# Altium integrated library Actel ProASIC PLUS.IntLib: 242 symbols (part 2 of 36)
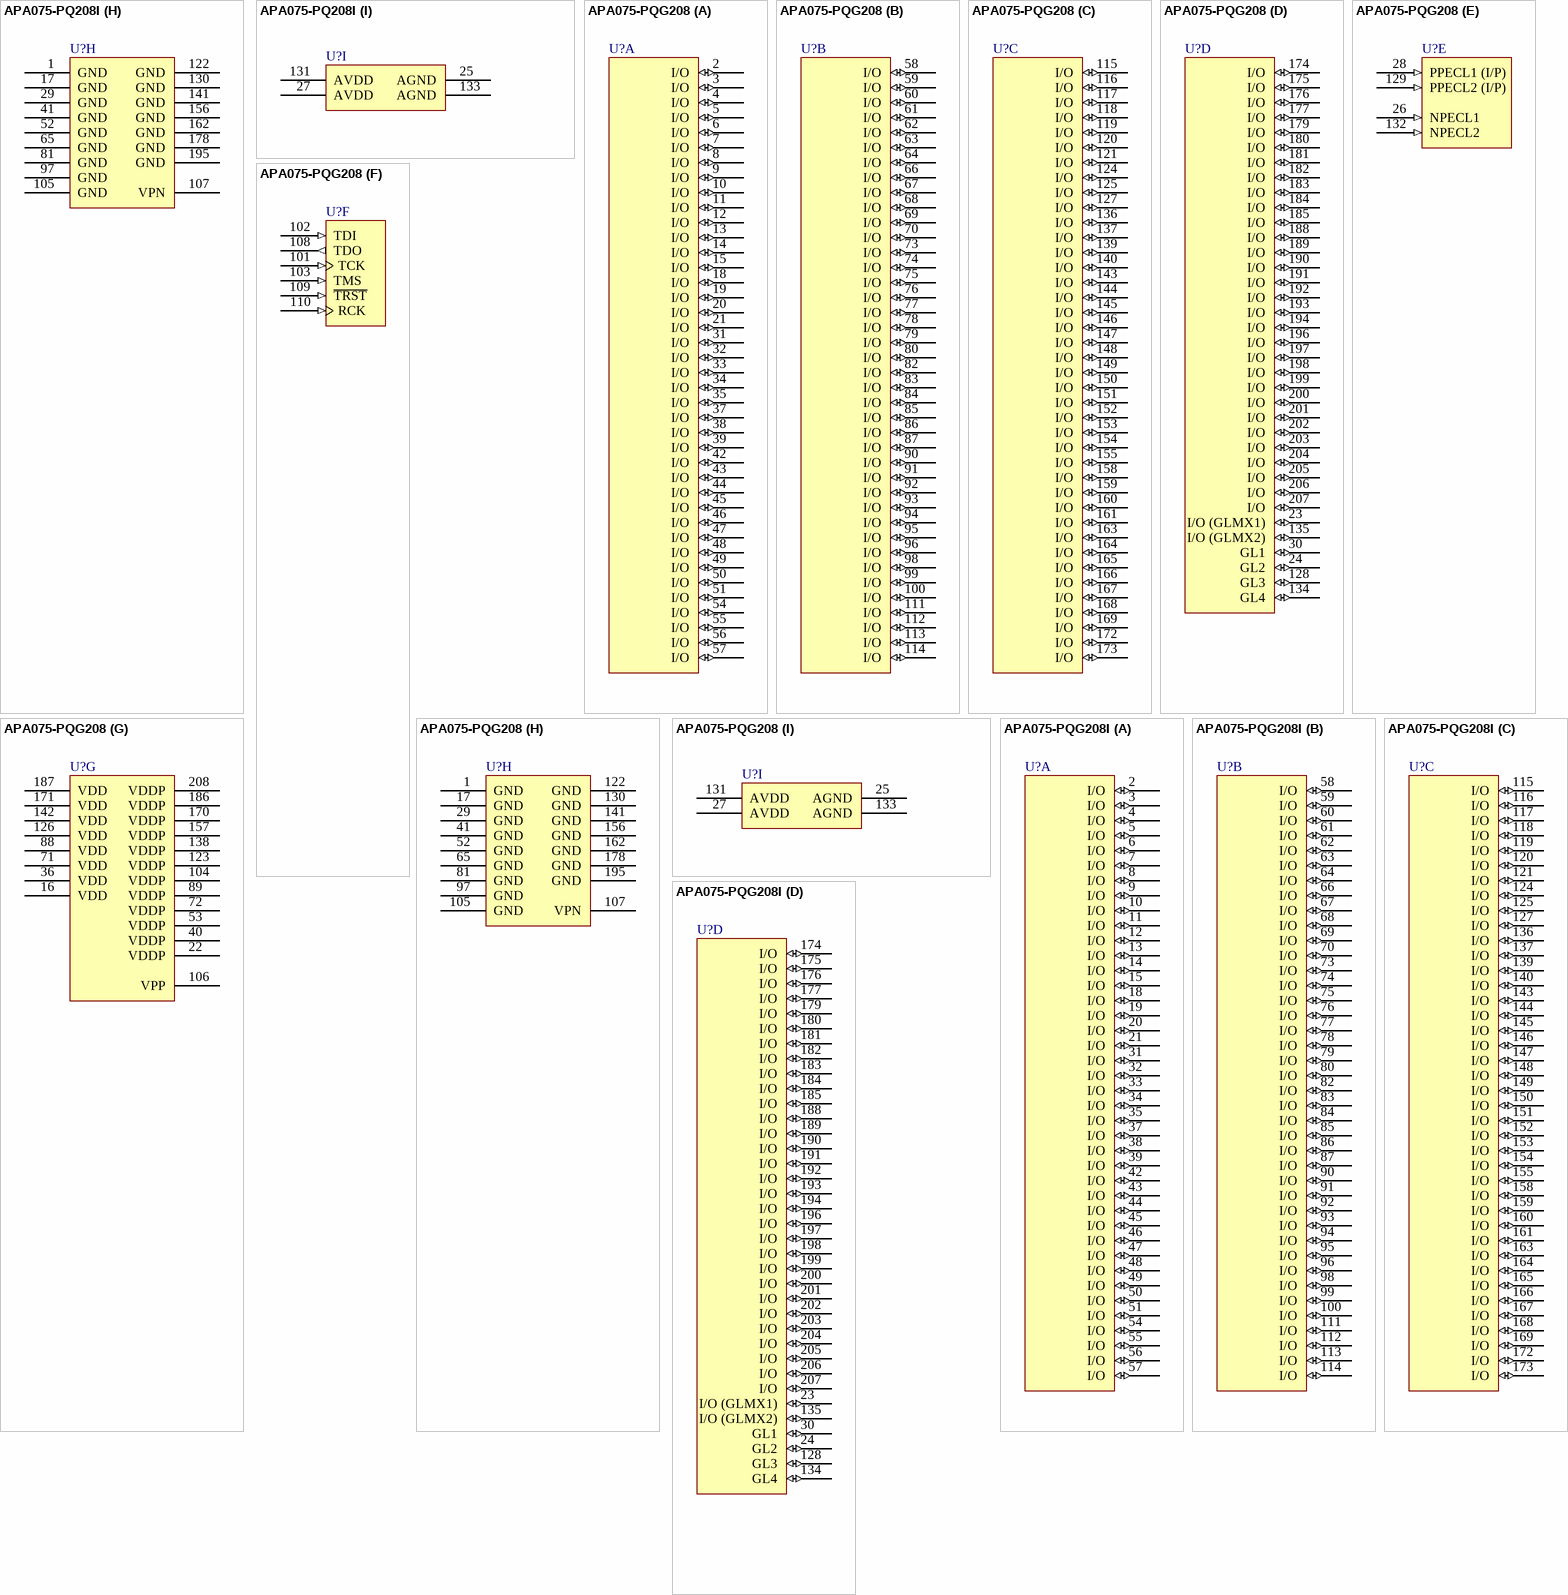
[diagram p198: symbols APA075-PQ208I to APA075-PQG208I]

## APA075-PQG208
designator U?
ProASICPlus APA075 Flash FPGA, 156 User IOs, 208-Pin PQFP, Speed Grade Standard, Commercial Grade, Pb-Free; DatasheetVersion: v5.9, Jan-2010; PackageVersion: ver11.2, Nov-2009; PackageReference: PQ208; PackageDescription: 208-Pin Plastic Quad Flat Pack (PQ208); Code_JEDEC: MS-029-FA-1; ComponentLink1Description: Manufacturer URL; ComponentLink1URL: http://www.actel.com/; ComponentLink2Description: ProASIC PLUS Datasheet; ComponentLink2URL: http://www.actel.com/documents/ProASICPLUS_DS.pdf; ComponentLink3Description: Package Mechanical Drawings; ComponentLink3URL: http://www.actel.com/documents/PckgMechDrwngs.pdf; ComponentLink4Description: ProASIC PLUS Documents; ComponentLink4URL: http://www.actel.com/products/proasicplus/docs.aspx
footprint PQ208_N (Shrink QFP, 208-Leads, Body 28x28mm, Pitch 0.5mm, IPC Medium Density)
footprint PQ208_L (Shrink QFP, 208-Leads, Body 28x28mm, Pitch 0.5mm, IPC High Density)
footprint PQ208_M (Shrink QFP, 208-Leads, Body 28x28mm, Pitch 0.5mm, IPC Low Density)
part A pins: 2 I/O (io), 3 I/O (io), 4 I/O (io), 5 I/O (io), 6 I/O (io), 7 I/O (io), 8 I/O (io), 9 I/O (io), 10 I/O (io), 11 I/O (io), 12 I/O (io), 13 I/O (io), 14 I/O (io), 15 I/O (io), 18 I/O (io), 19 I/O (io), 20 I/O (io), 21 I/O (io), 31 I/O (io), 32 I/O (io), 33 I/O (io), 34 I/O (io), 35 I/O (io), 37 I/O (io), 38 I/O (io), 39 I/O (io), 42 I/O (io), 43 I/O (io), 44 I/O (io), 45 I/O (io), 46 I/O (io), 47 I/O (io), 48 I/O (io), 49 I/O (io), 50 I/O (io), 51 I/O (io), 54 I/O (io), 55 I/O (io), 56 I/O (io), 57 I/O (io)
part B pins: 58 I/O (io), 59 I/O (io), 60 I/O (io), 61 I/O (io), 62 I/O (io), 63 I/O (io), 64 I/O (io), 66 I/O (io), 67 I/O (io), 68 I/O (io), 69 I/O (io), 70 I/O (io), 73 I/O (io), 74 I/O (io), 75 I/O (io), 76 I/O (io), 77 I/O (io), 78 I/O (io), 79 I/O (io), 80 I/O (io), 82 I/O (io), 83 I/O (io), 84 I/O (io), 85 I/O (io), 86 I/O (io), 87 I/O (io), 90 I/O (io), 91 I/O (io), 92 I/O (io), 93 I/O (io), 94 I/O (io), 95 I/O (io), 96 I/O (io), 98 I/O (io), 99 I/O (io), 100 I/O (io), 111 I/O (io), 112 I/O (io), 113 I/O (io), 114 I/O (io)
part C pins: 115 I/O (io), 116 I/O (io), 117 I/O (io), 118 I/O (io), 119 I/O (io), 120 I/O (io), 121 I/O (io), 124 I/O (io), 125 I/O (io), 127 I/O (io), 136 I/O (io), 137 I/O (io), 139 I/O (io), 140 I/O (io), 143 I/O (io), 144 I/O (io), 145 I/O (io), 146 I/O (io), 147 I/O (io), 148 I/O (io), 149 I/O (io), 150 I/O (io), 151 I/O (io), 152 I/O (io), 153 I/O (io), 154 I/O (io), 155 I/O (io), 158 I/O (io), 159 I/O (io), 160 I/O (io), 161 I/O (io), 163 I/O (io), 164 I/O (io), 165 I/O (io), 166 I/O (io), 167 I/O (io), 168 I/O (io), 169 I/O (io), 172 I/O (io), 173 I/O (io)
part D pins: 23 I/O (GLMX1) (io), 24 GL2 (io), 30 GL1 (io), 128 GL3 (io), 134 GL4 (io), 135 I/O (GLMX2) (io), 174 I/O (io), 175 I/O (io), 176 I/O (io), 177 I/O (io), 179 I/O (io), 180 I/O (io), 181 I/O (io), 182 I/O (io), 183 I/O (io), 184 I/O (io), 185 I/O (io), 188 I/O (io), 189 I/O (io), 190 I/O (io), 191 I/O (io), 192 I/O (io), 193 I/O (io), 194 I/O (io), 196 I/O (io), 197 I/O (io), 198 I/O (io), 199 I/O (io), 200 I/O (io), 201 I/O (io), 202 I/O (io), 203 I/O (io), 204 I/O (io), 205 I/O (io), 206 I/O (io), 207 I/O (io)
part E pins: 26 NPECL1 (in), 28 PPECL1 (I/P) (in), 129 PPECL2 (I/P) (in), 132 NPECL2 (in)
part F pins: 101 TCK (in), 102 TDI (in), 103 TMS (in), 108 TDO (out), 109 ~{TRST} (in), 110 RCK (in)
part G pins: 16 VDD (power), 22 VDDP (power), 36 VDD (power), 40 VDDP (power), 53 VDDP (power), 71 VDD (power), 72 VDDP (power), 88 VDD (power), 89 VDDP (power), 104 VDDP (power), 106 VPP (power), 123 VDDP (power), 126 VDD (power), 138 VDDP (power), 142 VDD (power), 157 VDDP (power), 170 VDDP (power), 171 VDD (power), 186 VDDP (power), 187 VDD (power), 208 VDDP (power)
part H pins: 1 GND (power), 17 GND (power), 29 GND (power), 41 GND (power), 52 GND (power), 65 GND (power), 81 GND (power), 97 GND (power), 105 GND (power), 107 VPN (power), 122 GND (power), 130 GND (power), 141 GND (power), 156 GND (power), 162 GND (power), 178 GND (power), 195 GND (power)
part I pins: 25 AGND (power), 27 AVDD (power), 131 AVDD (power), 133 AGND (power)

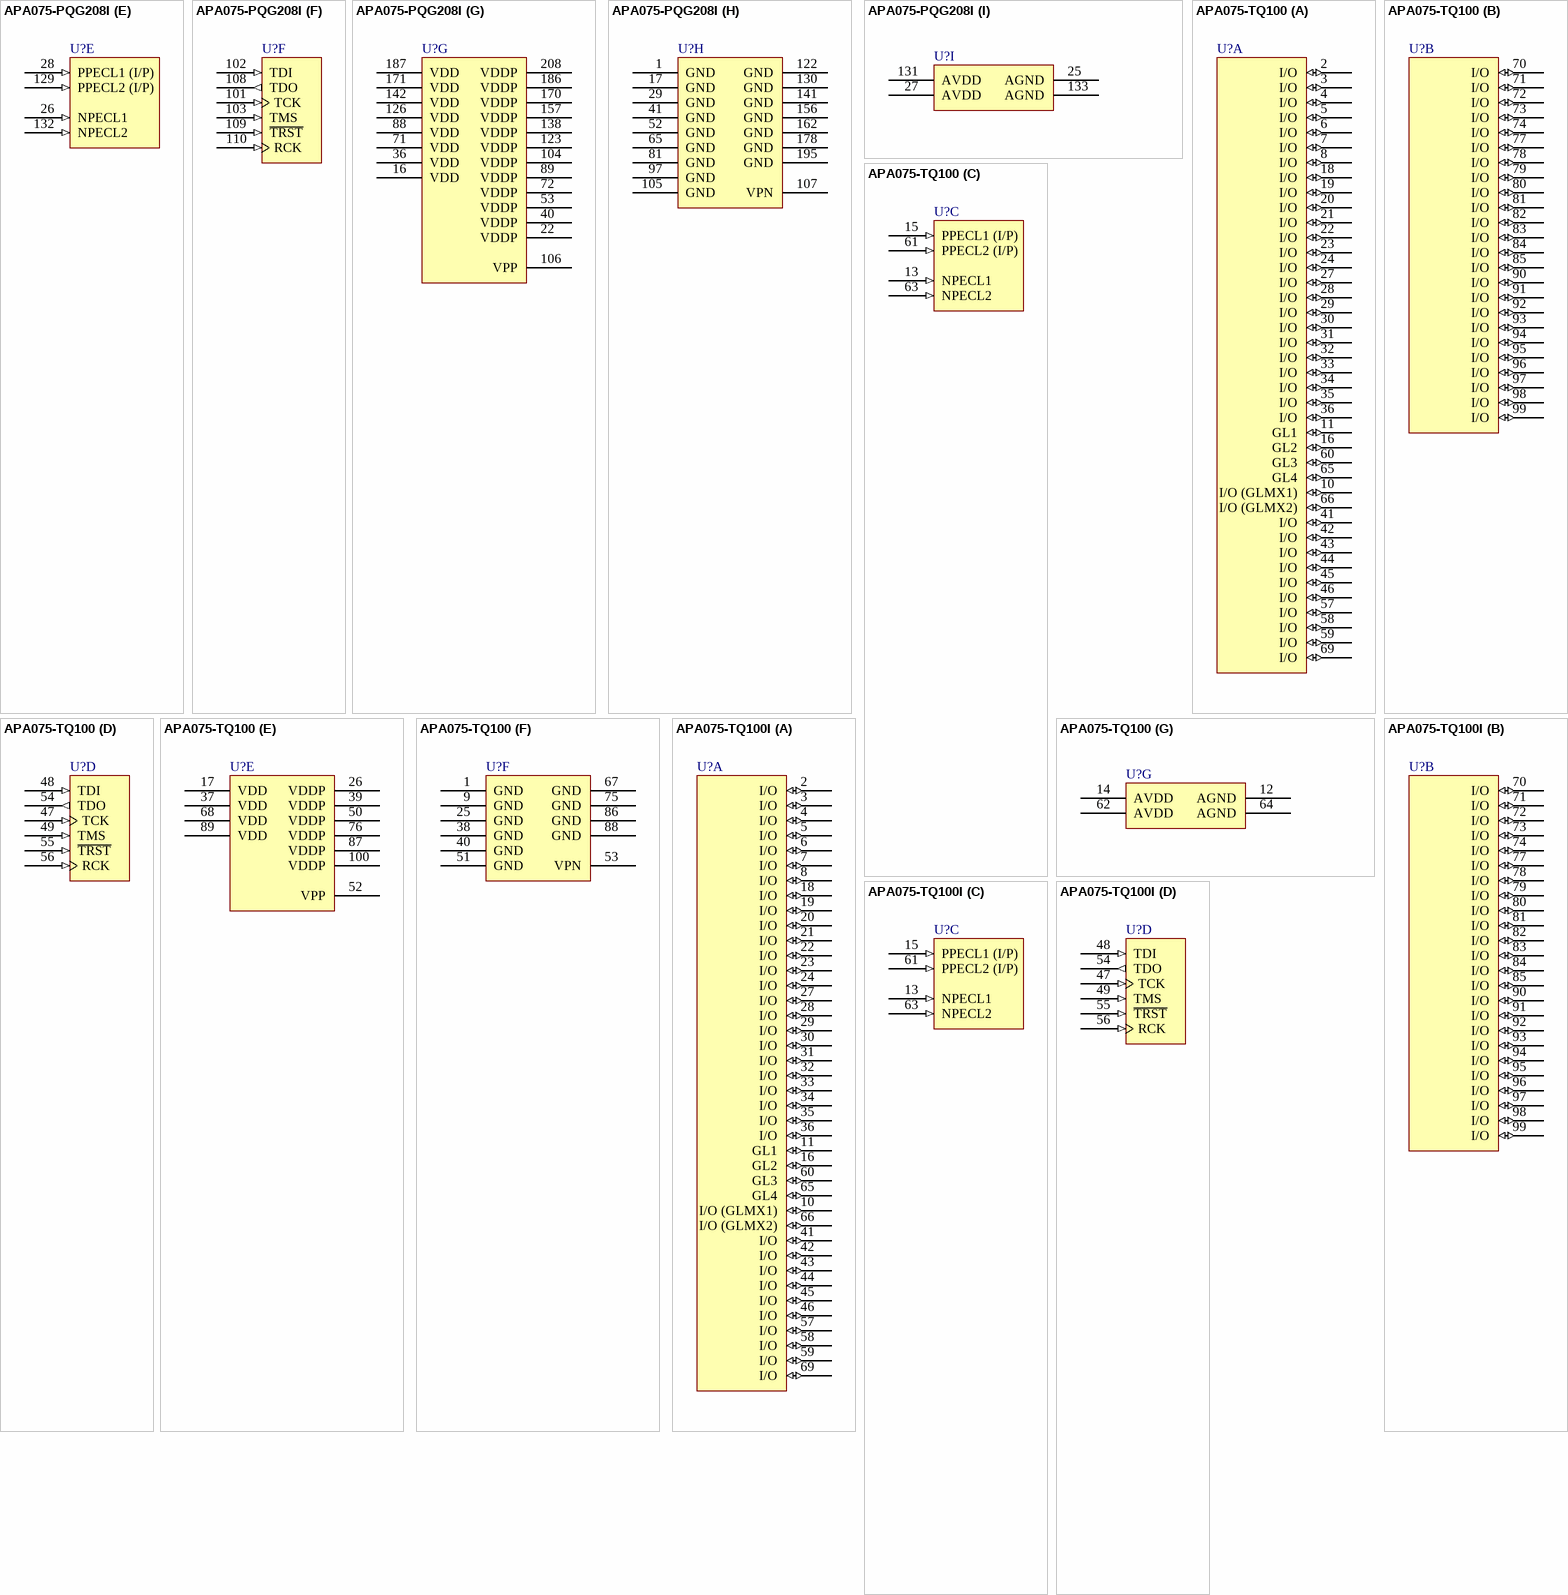
[diagram p8: symbols APA075-PQG208I to APA075-TQ100I]

## APA075-PQG208I
designator U?
ProASICPlus APA075 Flash FPGA, 156 User IOs, 208-Pin PQFP, Speed Grade Standard, Industrial Grade, Pb-Free; DatasheetVersion: v5.9, Jan-2010; PackageVersion: ver11.2, Nov-2009; PackageReference: PQ208; PackageDescription: 208-Pin Plastic Quad Flat Pack (PQ208); Code_JEDEC: MS-029-FA-1; ComponentLink1Description: Manufacturer URL; ComponentLink1URL: http://www.actel.com/; ComponentLink2Description: ProASIC PLUS Datasheet; ComponentLink2URL: http://www.actel.com/documents/ProASICPLUS_DS.pdf; ComponentLink3Description: Package Mechanical Drawings; ComponentLink3URL: http://www.actel.com/documents/PckgMechDrwngs.pdf; ComponentLink4Description: ProASIC PLUS Documents; ComponentLink4URL: http://www.actel.com/products/proasicplus/docs.aspx
footprint PQ208_N (Shrink QFP, 208-Leads, Body 28x28mm, Pitch 0.5mm, IPC Medium Density)
footprint PQ208_L (Shrink QFP, 208-Leads, Body 28x28mm, Pitch 0.5mm, IPC High Density)
footprint PQ208_M (Shrink QFP, 208-Leads, Body 28x28mm, Pitch 0.5mm, IPC Low Density)
part A pins: 2 I/O (io), 3 I/O (io), 4 I/O (io), 5 I/O (io), 6 I/O (io), 7 I/O (io), 8 I/O (io), 9 I/O (io), 10 I/O (io), 11 I/O (io), 12 I/O (io), 13 I/O (io), 14 I/O (io), 15 I/O (io), 18 I/O (io), 19 I/O (io), 20 I/O (io), 21 I/O (io), 31 I/O (io), 32 I/O (io), 33 I/O (io), 34 I/O (io), 35 I/O (io), 37 I/O (io), 38 I/O (io), 39 I/O (io), 42 I/O (io), 43 I/O (io), 44 I/O (io), 45 I/O (io), 46 I/O (io), 47 I/O (io), 48 I/O (io), 49 I/O (io), 50 I/O (io), 51 I/O (io), 54 I/O (io), 55 I/O (io), 56 I/O (io), 57 I/O (io)
part B pins: 58 I/O (io), 59 I/O (io), 60 I/O (io), 61 I/O (io), 62 I/O (io), 63 I/O (io), 64 I/O (io), 66 I/O (io), 67 I/O (io), 68 I/O (io), 69 I/O (io), 70 I/O (io), 73 I/O (io), 74 I/O (io), 75 I/O (io), 76 I/O (io), 77 I/O (io), 78 I/O (io), 79 I/O (io), 80 I/O (io), 82 I/O (io), 83 I/O (io), 84 I/O (io), 85 I/O (io), 86 I/O (io), 87 I/O (io), 90 I/O (io), 91 I/O (io), 92 I/O (io), 93 I/O (io), 94 I/O (io), 95 I/O (io), 96 I/O (io), 98 I/O (io), 99 I/O (io), 100 I/O (io), 111 I/O (io), 112 I/O (io), 113 I/O (io), 114 I/O (io)
part C pins: 115 I/O (io), 116 I/O (io), 117 I/O (io), 118 I/O (io), 119 I/O (io), 120 I/O (io), 121 I/O (io), 124 I/O (io), 125 I/O (io), 127 I/O (io), 136 I/O (io), 137 I/O (io), 139 I/O (io), 140 I/O (io), 143 I/O (io), 144 I/O (io), 145 I/O (io), 146 I/O (io), 147 I/O (io), 148 I/O (io), 149 I/O (io), 150 I/O (io), 151 I/O (io), 152 I/O (io), 153 I/O (io), 154 I/O (io), 155 I/O (io), 158 I/O (io), 159 I/O (io), 160 I/O (io), 161 I/O (io), 163 I/O (io), 164 I/O (io), 165 I/O (io), 166 I/O (io), 167 I/O (io), 168 I/O (io), 169 I/O (io), 172 I/O (io), 173 I/O (io)
part D pins: 23 I/O (GLMX1) (io), 24 GL2 (io), 30 GL1 (io), 128 GL3 (io), 134 GL4 (io), 135 I/O (GLMX2) (io), 174 I/O (io), 175 I/O (io), 176 I/O (io), 177 I/O (io), 179 I/O (io), 180 I/O (io), 181 I/O (io), 182 I/O (io), 183 I/O (io), 184 I/O (io), 185 I/O (io), 188 I/O (io), 189 I/O (io), 190 I/O (io), 191 I/O (io), 192 I/O (io), 193 I/O (io), 194 I/O (io), 196 I/O (io), 197 I/O (io), 198 I/O (io), 199 I/O (io), 200 I/O (io), 201 I/O (io), 202 I/O (io), 203 I/O (io), 204 I/O (io), 205 I/O (io), 206 I/O (io), 207 I/O (io)
part E pins: 26 NPECL1 (in), 28 PPECL1 (I/P) (in), 129 PPECL2 (I/P) (in), 132 NPECL2 (in)
part F pins: 101 TCK (in), 102 TDI (in), 103 TMS (in), 108 TDO (out), 109 ~{TRST} (in), 110 RCK (in)
part G pins: 16 VDD (power), 22 VDDP (power), 36 VDD (power), 40 VDDP (power), 53 VDDP (power), 71 VDD (power), 72 VDDP (power), 88 VDD (power), 89 VDDP (power), 104 VDDP (power), 106 VPP (power), 123 VDDP (power), 126 VDD (power), 138 VDDP (power), 142 VDD (power), 157 VDDP (power), 170 VDDP (power), 171 VDD (power), 186 VDDP (power), 187 VDD (power), 208 VDDP (power)
part H pins: 1 GND (power), 17 GND (power), 29 GND (power), 41 GND (power), 52 GND (power), 65 GND (power), 81 GND (power), 97 GND (power), 105 GND (power), 107 VPN (power), 122 GND (power), 130 GND (power), 141 GND (power), 156 GND (power), 162 GND (power), 178 GND (power), 195 GND (power)
part I pins: 25 AGND (power), 27 AVDD (power), 131 AVDD (power), 133 AGND (power)

## APA075-TQ100
designator U?
ProASICPlus APA075 Flash FPGA, 66 User IOs, 100-Pin TQFP, Speed Grade Standard, Commercial Grade; DatasheetVersion: v5.9, Jan-2010; PackageVersion: ver11.2, Nov-2009; PackageReference: TQ100; PackageDescription: 100-Pin Plastic Quad Flat Pack (TQ100); Code_JEDEC: MS-026-BED; ComponentLink1Description: Manufacturer URL; ComponentLink1URL: http://www.actel.com/; ComponentLink2Description: ProASIC PLUS Datasheet; ComponentLink2URL: http://www.actel.com/documents/ProASICPLUS_DS.pdf; ComponentLink3Description: Package Mechanical Drawings; ComponentLink3URL: http://www.actel.com/documents/PckgMechDrwngs.pdf; ComponentLink4Description: ProASIC PLUS Documents; ComponentLink4URL: http://www.actel.com/products/proasicplus/docs.aspx
footprint TQ100_N (Thin QFP, 100-Leads, Body 14x14mm, Pitch 0.5mm, IPC Medium Density)
footprint TQ100_L (Thin QFP, 100-Leads, Body 14x14mm, Pitch 0.5mm, IPC High Density)
footprint TQ100_M (Thin QFP, 100-Leads, Body 14x14mm, Pitch 0.5mm, IPC Low Density)
part A pins: 2 I/O (io), 3 I/O (io), 4 I/O (io), 5 I/O (io), 6 I/O (io), 7 I/O (io), 8 I/O (io), 10 I/O (GLMX1) (io), 11 GL1 (io), 16 GL2 (io), 18 I/O (io), 19 I/O (io), 20 I/O (io), 21 I/O (io), 22 I/O (io), 23 I/O (io), 24 I/O (io), 27 I/O (io), 28 I/O (io), 29 I/O (io), 30 I/O (io), 31 I/O (io), 32 I/O (io), 33 I/O (io), 34 I/O (io), 35 I/O (io), 36 I/O (io), 41 I/O (io), 42 I/O (io), 43 I/O (io), 44 I/O (io), 45 I/O (io), 46 I/O (io), 57 I/O (io), 58 I/O (io), 59 I/O (io), 60 GL3 (io), 65 GL4 (io), 66 I/O (GLMX2) (io), 69 I/O (io)
part B pins: 70 I/O (io), 71 I/O (io), 72 I/O (io), 73 I/O (io), 74 I/O (io), 77 I/O (io), 78 I/O (io), 79 I/O (io), 80 I/O (io), 81 I/O (io), 82 I/O (io), 83 I/O (io), 84 I/O (io), 85 I/O (io), 90 I/O (io), 91 I/O (io), 92 I/O (io), 93 I/O (io), 94 I/O (io), 95 I/O (io), 96 I/O (io), 97 I/O (io), 98 I/O (io), 99 I/O (io)
part C pins: 13 NPECL1 (in), 15 PPECL1 (I/P) (in), 61 PPECL2 (I/P) (in), 63 NPECL2 (in)
part D pins: 47 TCK (in), 48 TDI (in), 49 TMS (in), 54 TDO (out), 55 ~{TRST} (in), 56 RCK (in)
part E pins: 17 VDD (power), 26 VDDP (power), 37 VDD (power), 39 VDDP (power), 50 VDDP (power), 52 VPP (power), 68 VDD (power), 76 VDDP (power), 87 VDDP (power), 89 VDD (power), 100 VDDP (power)
part F pins: 1 GND (power), 9 GND (power), 25 GND (power), 38 GND (power), 40 GND (power), 51 GND (power), 53 VPN (power), 67 GND (power), 75 GND (power), 86 GND (power), 88 GND (power)
part G pins: 12 AGND (power), 14 AVDD (power), 62 AVDD (power), 64 AGND (power)

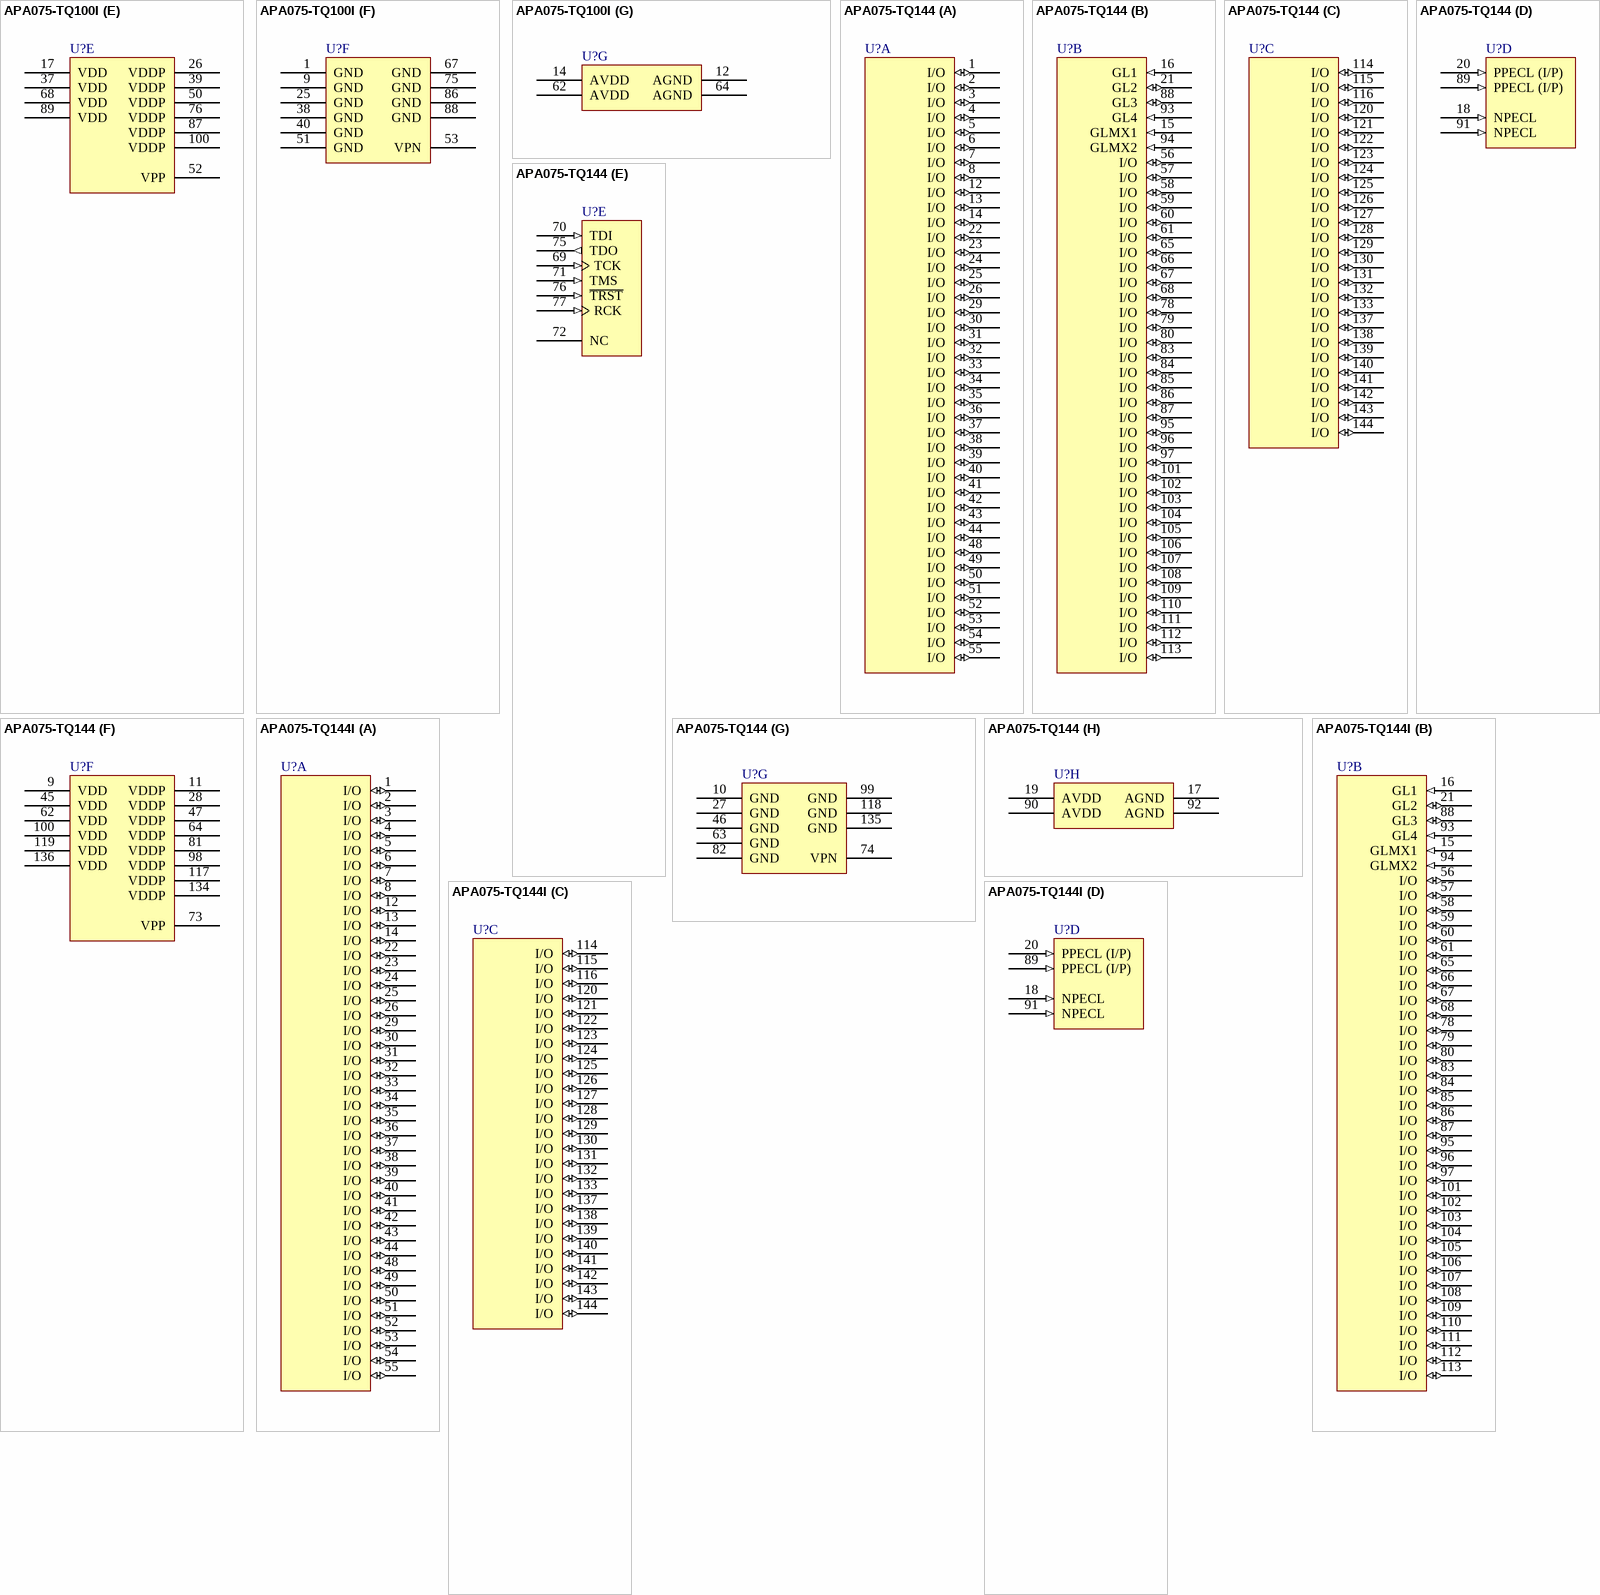
[diagram p9: symbols APA075-TQ100I to APA075-TQ144I]

## APA075-TQ100I
designator U?
ProASICPlus APA075 Flash FPGA, 66 User IOs, 100-Pin TQFP, Speed Grade Standard, Industrial Grade; DatasheetVersion: v5.9, Jan-2010; PackageVersion: ver11.2, Nov-2009; PackageReference: TQ100; PackageDescription: 100-Pin Plastic Quad Flat Pack (TQ100); Code_JEDEC: MS-026-BED; ComponentLink1Description: Manufacturer URL; ComponentLink1URL: http://www.actel.com/; ComponentLink2Description: ProASIC PLUS Datasheet; ComponentLink2URL: http://www.actel.com/documents/ProASICPLUS_DS.pdf; ComponentLink3Description: Package Mechanical Drawings; ComponentLink3URL: http://www.actel.com/documents/PckgMechDrwngs.pdf; ComponentLink4Description: ProASIC PLUS Documents; ComponentLink4URL: http://www.actel.com/products/proasicplus/docs.aspx
footprint TQ100_N (Thin QFP, 100-Leads, Body 14x14mm, Pitch 0.5mm, IPC Medium Density)
footprint TQ100_L (Thin QFP, 100-Leads, Body 14x14mm, Pitch 0.5mm, IPC High Density)
footprint TQ100_M (Thin QFP, 100-Leads, Body 14x14mm, Pitch 0.5mm, IPC Low Density)
part A pins: 2 I/O (io), 3 I/O (io), 4 I/O (io), 5 I/O (io), 6 I/O (io), 7 I/O (io), 8 I/O (io), 10 I/O (GLMX1) (io), 11 GL1 (io), 16 GL2 (io), 18 I/O (io), 19 I/O (io), 20 I/O (io), 21 I/O (io), 22 I/O (io), 23 I/O (io), 24 I/O (io), 27 I/O (io), 28 I/O (io), 29 I/O (io), 30 I/O (io), 31 I/O (io), 32 I/O (io), 33 I/O (io), 34 I/O (io), 35 I/O (io), 36 I/O (io), 41 I/O (io), 42 I/O (io), 43 I/O (io), 44 I/O (io), 45 I/O (io), 46 I/O (io), 57 I/O (io), 58 I/O (io), 59 I/O (io), 60 GL3 (io), 65 GL4 (io), 66 I/O (GLMX2) (io), 69 I/O (io)
part B pins: 70 I/O (io), 71 I/O (io), 72 I/O (io), 73 I/O (io), 74 I/O (io), 77 I/O (io), 78 I/O (io), 79 I/O (io), 80 I/O (io), 81 I/O (io), 82 I/O (io), 83 I/O (io), 84 I/O (io), 85 I/O (io), 90 I/O (io), 91 I/O (io), 92 I/O (io), 93 I/O (io), 94 I/O (io), 95 I/O (io), 96 I/O (io), 97 I/O (io), 98 I/O (io), 99 I/O (io)
part C pins: 13 NPECL1 (in), 15 PPECL1 (I/P) (in), 61 PPECL2 (I/P) (in), 63 NPECL2 (in)
part D pins: 47 TCK (in), 48 TDI (in), 49 TMS (in), 54 TDO (out), 55 ~{TRST} (in), 56 RCK (in)
part E pins: 17 VDD (power), 26 VDDP (power), 37 VDD (power), 39 VDDP (power), 50 VDDP (power), 52 VPP (power), 68 VDD (power), 76 VDDP (power), 87 VDDP (power), 89 VDD (power), 100 VDDP (power)
part F pins: 1 GND (power), 9 GND (power), 25 GND (power), 38 GND (power), 40 GND (power), 51 GND (power), 53 VPN (power), 67 GND (power), 75 GND (power), 86 GND (power), 88 GND (power)
part G pins: 12 AGND (power), 14 AVDD (power), 62 AVDD (power), 64 AGND (power)

## APA075-TQ144
designator U?
ProASICPlus APA075 Flash FPGA, 107 User IOs, 144-Pin TQFP, Speed Grade Standard, Commercial Grade; DatasheetVersion: v5.9, Jan-2010; PackageVersion: ver11.2, Nov-2009; PackageReference: TQ144; PackageDescription: 144-Pin Plastic Quad Flat Pack (TQ144); Code_JEDEC: MS-026-BFB; ComponentLink1Description: Manufacturer URL; ComponentLink1URL: http://www.actel.com/; ComponentLink2Description: ProASIC PLUS Datasheet; ComponentLink2URL: http://www.actel.com/documents/ProASICPLUS_DS.pdf; ComponentLink3Description: Package Mechanical Drawings; ComponentLink3URL: http://www.actel.com/documents/PckgMechDrwngs.pdf; ComponentLink4Description: ProASIC PLUS Documents; ComponentLink4URL: http://www.actel.com/products/proasicplus/docs.aspx
footprint TQ144_N (Thin QFP, 144-Leads, Body 20x20mm, Pitch 0.5mm, IPC Medium Density)
footprint TQ144_L (Thin QFP, 144-Leads, Body 20x20mm, Pitch 0.5mm, IPC High Density)
footprint TQ144_M (Thin QFP, 144-Leads, Body 20x20mm, Pitch 0.5mm, IPC Low Density)
part A pins: 1 I/O (io), 2 I/O (io), 3 I/O (io), 4 I/O (io), 5 I/O (io), 6 I/O (io), 7 I/O (io), 8 I/O (io), 12 I/O (io), 13 I/O (io), 14 I/O (io), 22 I/O (io), 23 I/O (io), 24 I/O (io), 25 I/O (io), 26 I/O (io), 29 I/O (io), 30 I/O (io), 31 I/O (io), 32 I/O (io), 33 I/O (io), 34 I/O (io), 35 I/O (io), 36 I/O (io), 37 I/O (io), 38 I/O (io), 39 I/O (io), 40 I/O (io), 41 I/O (io), 42 I/O (io), 43 I/O (io), 44 I/O (io), 48 I/O (io), 49 I/O (io), 50 I/O (io), 51 I/O (io), 52 I/O (io), 53 I/O (io), 54 I/O (io), 55 I/O (io)
part B pins: 15 GLMX1 (in), 16 GL1 (in), 21 GL2 (io), 56 I/O (io), 57 I/O (io), 58 I/O (io), 59 I/O (io), 60 I/O (io), 61 I/O (io), 65 I/O (io), 66 I/O (io), 67 I/O (io), 68 I/O (io), 78 I/O (io), 79 I/O (io), 80 I/O (io), 83 I/O (io), 84 I/O (io), 85 I/O (io), 86 I/O (io), 87 I/O (io), 88 GL3 (io), 93 GL4 (in), 94 GLMX2 (in), 95 I/O (io), 96 I/O (io), 97 I/O (io), 101 I/O (io), 102 I/O (io), 103 I/O (io), 104 I/O (io), 105 I/O (io), 106 I/O (io), 107 I/O (io), 108 I/O (io), 109 I/O (io), 110 I/O (io), 111 I/O (io), 112 I/O (io), 113 I/O (io)
part C pins: 114 I/O (io), 115 I/O (io), 116 I/O (io), 120 I/O (io), 121 I/O (io), 122 I/O (io), 123 I/O (io), 124 I/O (io), 125 I/O (io), 126 I/O (io), 127 I/O (io), 128 I/O (io), 129 I/O (io), 130 I/O (io), 131 I/O (io), 132 I/O (io), 133 I/O (io), 137 I/O (io), 138 I/O (io), 139 I/O (io), 140 I/O (io), 141 I/O (io), 142 I/O (io), 143 I/O (io), 144 I/O (io)
part D pins: 18 NPECL (in), 20 PPECL (I/P) (in), 89 PPECL (I/P) (in), 91 NPECL (in)
part E pins: 69 TCK (in), 70 TDI (in), 71 TMS (in), 72 NC, 75 TDO (out), 76 ~{TRST} (in), 77 RCK (in)
part F pins: 9 VDD (power), 11 VDDP (power), 28 VDDP (power), 45 VDD (power), 47 VDDP (power), 62 VDD (power), 64 VDDP (power), 73 VPP (power), 81 VDDP (power), 98 VDDP (power), 100 VDD (power), 117 VDDP (power), 119 VDD (power), 134 VDDP (power), 136 VDD (power)
part G pins: 10 GND (power), 27 GND (power), 46 GND (power), 63 GND (power), 74 VPN (power), 82 GND (power), 99 GND (power), 118 GND (power), 135 GND (power)
part H pins: 17 AGND (power), 19 AVDD (power), 90 AVDD (power), 92 AGND (power)

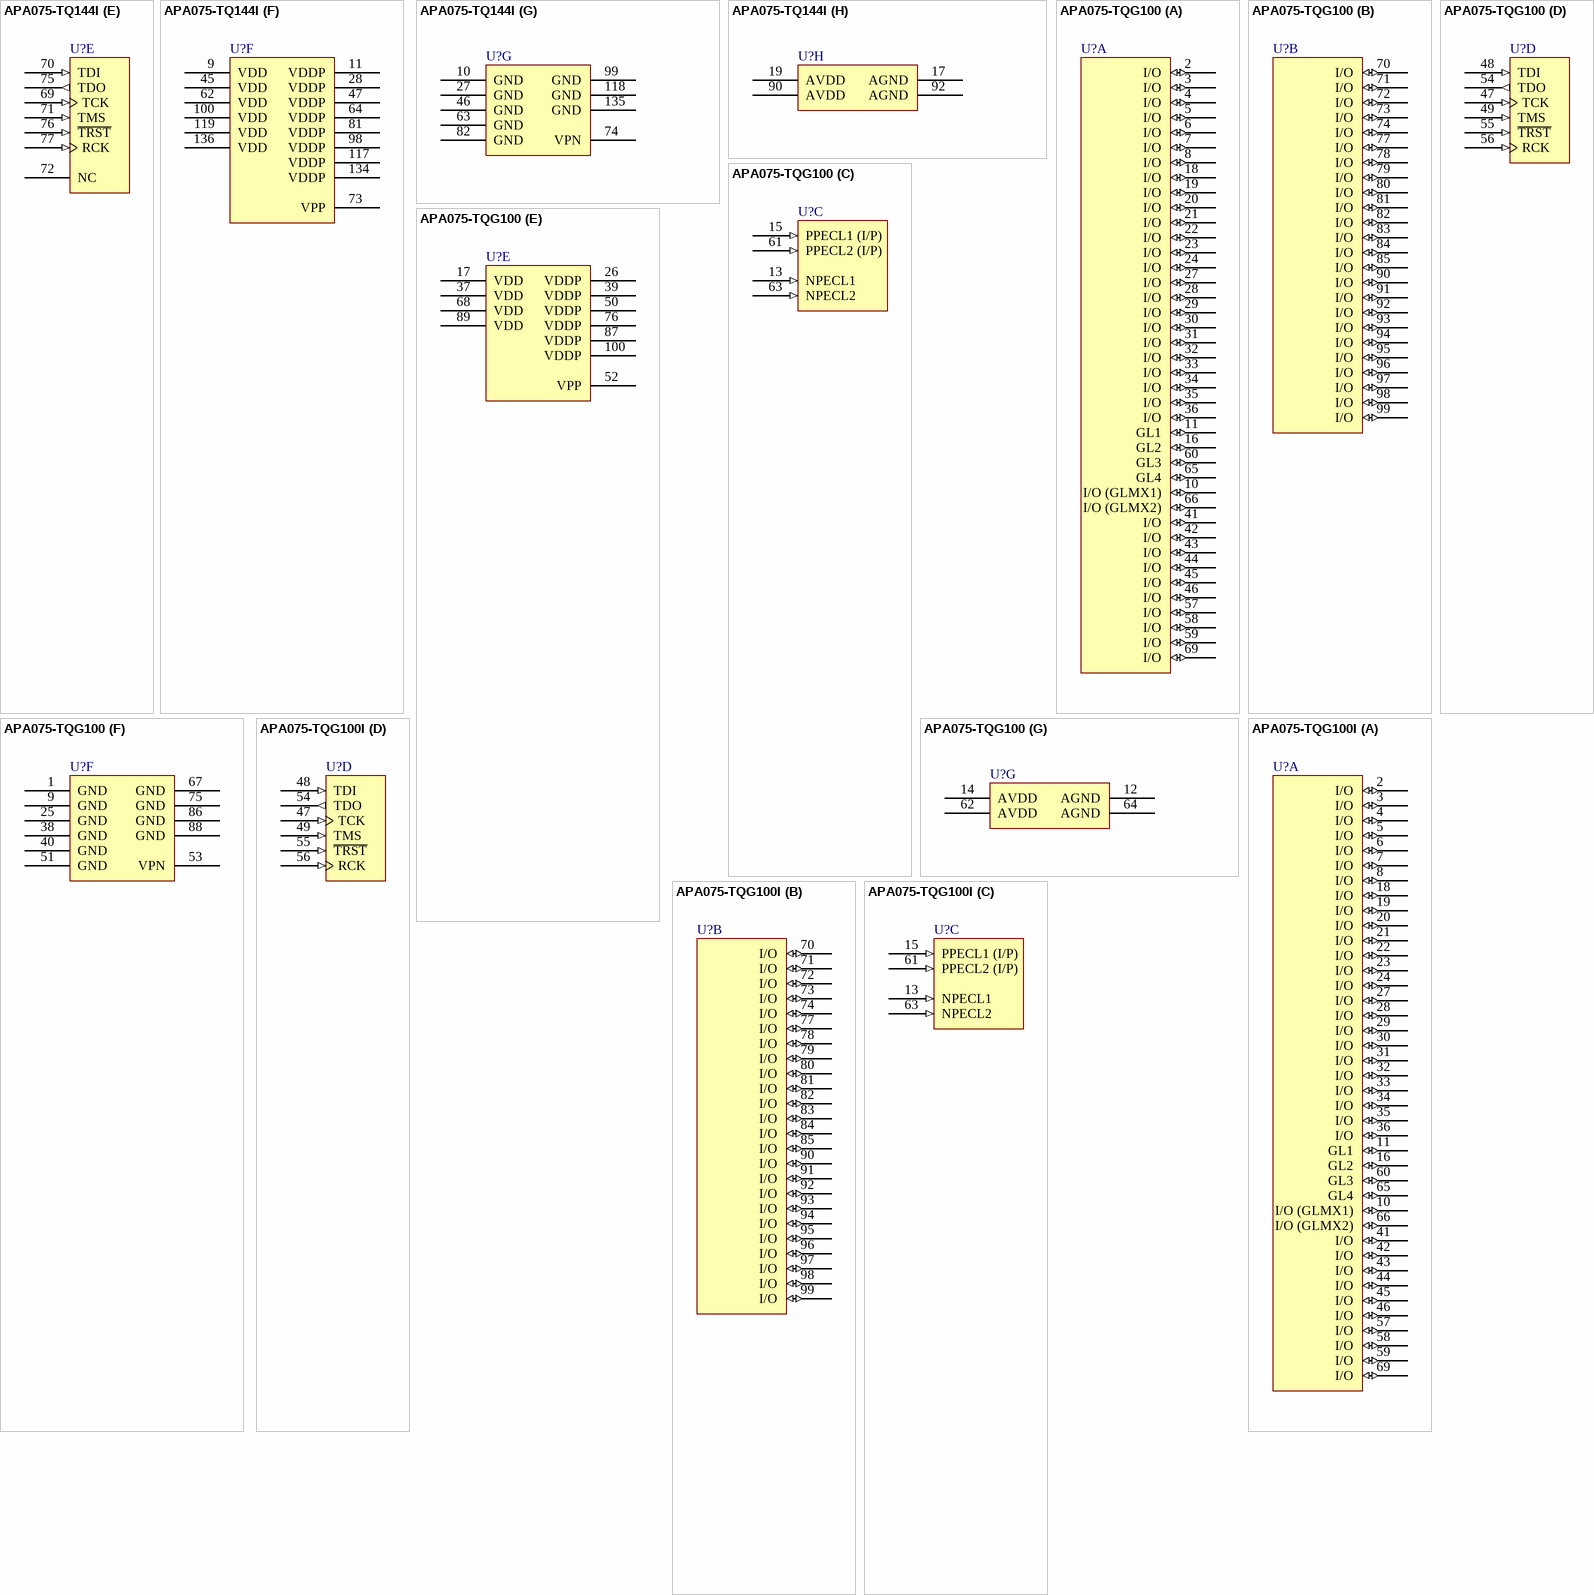
[diagram p10: symbols APA075-TQ144I to APA075-TQG100I]

## APA075-TQ144I
designator U?
ProASICPlus APA075 Flash FPGA, 107 User IOs, 144-Pin TQFP, Speed Grade Standard, Industrial Grade; DatasheetVersion: v5.9, Jan-2010; PackageVersion: ver11.2, Nov-2009; PackageReference: TQ144; PackageDescription: 144-Pin Plastic Quad Flat Pack (TQ144); Code_JEDEC: MS-026-BFB; ComponentLink1Description: Manufacturer URL; ComponentLink1URL: http://www.actel.com/; ComponentLink2Description: ProASIC PLUS Datasheet; ComponentLink2URL: http://www.actel.com/documents/ProASICPLUS_DS.pdf; ComponentLink3Description: Package Mechanical Drawings; ComponentLink3URL: http://www.actel.com/documents/PckgMechDrwngs.pdf; ComponentLink4Description: ProASIC PLUS Documents; ComponentLink4URL: http://www.actel.com/products/proasicplus/docs.aspx
footprint TQ144_N (Thin QFP, 144-Leads, Body 20x20mm, Pitch 0.5mm, IPC Medium Density)
footprint TQ144_L (Thin QFP, 144-Leads, Body 20x20mm, Pitch 0.5mm, IPC High Density)
footprint TQ144_M (Thin QFP, 144-Leads, Body 20x20mm, Pitch 0.5mm, IPC Low Density)
part A pins: 1 I/O (io), 2 I/O (io), 3 I/O (io), 4 I/O (io), 5 I/O (io), 6 I/O (io), 7 I/O (io), 8 I/O (io), 12 I/O (io), 13 I/O (io), 14 I/O (io), 22 I/O (io), 23 I/O (io), 24 I/O (io), 25 I/O (io), 26 I/O (io), 29 I/O (io), 30 I/O (io), 31 I/O (io), 32 I/O (io), 33 I/O (io), 34 I/O (io), 35 I/O (io), 36 I/O (io), 37 I/O (io), 38 I/O (io), 39 I/O (io), 40 I/O (io), 41 I/O (io), 42 I/O (io), 43 I/O (io), 44 I/O (io), 48 I/O (io), 49 I/O (io), 50 I/O (io), 51 I/O (io), 52 I/O (io), 53 I/O (io), 54 I/O (io), 55 I/O (io)
part B pins: 15 GLMX1 (in), 16 GL1 (in), 21 GL2 (io), 56 I/O (io), 57 I/O (io), 58 I/O (io), 59 I/O (io), 60 I/O (io), 61 I/O (io), 65 I/O (io), 66 I/O (io), 67 I/O (io), 68 I/O (io), 78 I/O (io), 79 I/O (io), 80 I/O (io), 83 I/O (io), 84 I/O (io), 85 I/O (io), 86 I/O (io), 87 I/O (io), 88 GL3 (io), 93 GL4 (in), 94 GLMX2 (in), 95 I/O (io), 96 I/O (io), 97 I/O (io), 101 I/O (io), 102 I/O (io), 103 I/O (io), 104 I/O (io), 105 I/O (io), 106 I/O (io), 107 I/O (io), 108 I/O (io), 109 I/O (io), 110 I/O (io), 111 I/O (io), 112 I/O (io), 113 I/O (io)
part C pins: 114 I/O (io), 115 I/O (io), 116 I/O (io), 120 I/O (io), 121 I/O (io), 122 I/O (io), 123 I/O (io), 124 I/O (io), 125 I/O (io), 126 I/O (io), 127 I/O (io), 128 I/O (io), 129 I/O (io), 130 I/O (io), 131 I/O (io), 132 I/O (io), 133 I/O (io), 137 I/O (io), 138 I/O (io), 139 I/O (io), 140 I/O (io), 141 I/O (io), 142 I/O (io), 143 I/O (io), 144 I/O (io)
part D pins: 18 NPECL (in), 20 PPECL (I/P) (in), 89 PPECL (I/P) (in), 91 NPECL (in)
part E pins: 69 TCK (in), 70 TDI (in), 71 TMS (in), 72 NC, 75 TDO (out), 76 ~{TRST} (in), 77 RCK (in)
part F pins: 9 VDD (power), 11 VDDP (power), 28 VDDP (power), 45 VDD (power), 47 VDDP (power), 62 VDD (power), 64 VDDP (power), 73 VPP (power), 81 VDDP (power), 98 VDDP (power), 100 VDD (power), 117 VDDP (power), 119 VDD (power), 134 VDDP (power), 136 VDD (power)
part G pins: 10 GND (power), 27 GND (power), 46 GND (power), 63 GND (power), 74 VPN (power), 82 GND (power), 99 GND (power), 118 GND (power), 135 GND (power)
part H pins: 17 AGND (power), 19 AVDD (power), 90 AVDD (power), 92 AGND (power)

## APA075-TQG100
designator U?
ProASICPlus APA075 Flash FPGA, 66 User IOs, 100-Pin TQFP, Speed Grade Standard, Commercial Grade, Pb-Free; DatasheetVersion: v5.9, Jan-2010; PackageVersion: ver11.2, Nov-2009; PackageReference: TQ100; PackageDescription: 100-Pin Plastic Quad Flat Pack (TQ100); Code_JEDEC: MS-026-BED; ComponentLink1Description: Manufacturer URL; ComponentLink1URL: http://www.actel.com/; ComponentLink2Description: ProASIC PLUS Datasheet; ComponentLink2URL: http://www.actel.com/documents/ProASICPLUS_DS.pdf; ComponentLink3Description: Package Mechanical Drawings; ComponentLink3URL: http://www.actel.com/documents/PckgMechDrwngs.pdf; ComponentLink4Description: ProASIC PLUS Documents; ComponentLink4URL: http://www.actel.com/products/proasicplus/docs.aspx
footprint TQ100_N (Thin QFP, 100-Leads, Body 14x14mm, Pitch 0.5mm, IPC Medium Density)
footprint TQ100_L (Thin QFP, 100-Leads, Body 14x14mm, Pitch 0.5mm, IPC High Density)
footprint TQ100_M (Thin QFP, 100-Leads, Body 14x14mm, Pitch 0.5mm, IPC Low Density)
part A pins: 2 I/O (io), 3 I/O (io), 4 I/O (io), 5 I/O (io), 6 I/O (io), 7 I/O (io), 8 I/O (io), 10 I/O (GLMX1) (io), 11 GL1 (io), 16 GL2 (io), 18 I/O (io), 19 I/O (io), 20 I/O (io), 21 I/O (io), 22 I/O (io), 23 I/O (io), 24 I/O (io), 27 I/O (io), 28 I/O (io), 29 I/O (io), 30 I/O (io), 31 I/O (io), 32 I/O (io), 33 I/O (io), 34 I/O (io), 35 I/O (io), 36 I/O (io), 41 I/O (io), 42 I/O (io), 43 I/O (io), 44 I/O (io), 45 I/O (io), 46 I/O (io), 57 I/O (io), 58 I/O (io), 59 I/O (io), 60 GL3 (io), 65 GL4 (io), 66 I/O (GLMX2) (io), 69 I/O (io)
part B pins: 70 I/O (io), 71 I/O (io), 72 I/O (io), 73 I/O (io), 74 I/O (io), 77 I/O (io), 78 I/O (io), 79 I/O (io), 80 I/O (io), 81 I/O (io), 82 I/O (io), 83 I/O (io), 84 I/O (io), 85 I/O (io), 90 I/O (io), 91 I/O (io), 92 I/O (io), 93 I/O (io), 94 I/O (io), 95 I/O (io), 96 I/O (io), 97 I/O (io), 98 I/O (io), 99 I/O (io)
part C pins: 13 NPECL1 (in), 15 PPECL1 (I/P) (in), 61 PPECL2 (I/P) (in), 63 NPECL2 (in)
part D pins: 47 TCK (in), 48 TDI (in), 49 TMS (in), 54 TDO (out), 55 ~{TRST} (in), 56 RCK (in)
part E pins: 17 VDD (power), 26 VDDP (power), 37 VDD (power), 39 VDDP (power), 50 VDDP (power), 52 VPP (power), 68 VDD (power), 76 VDDP (power), 87 VDDP (power), 89 VDD (power), 100 VDDP (power)
part F pins: 1 GND (power), 9 GND (power), 25 GND (power), 38 GND (power), 40 GND (power), 51 GND (power), 53 VPN (power), 67 GND (power), 75 GND (power), 86 GND (power), 88 GND (power)
part G pins: 12 AGND (power), 14 AVDD (power), 62 AVDD (power), 64 AGND (power)

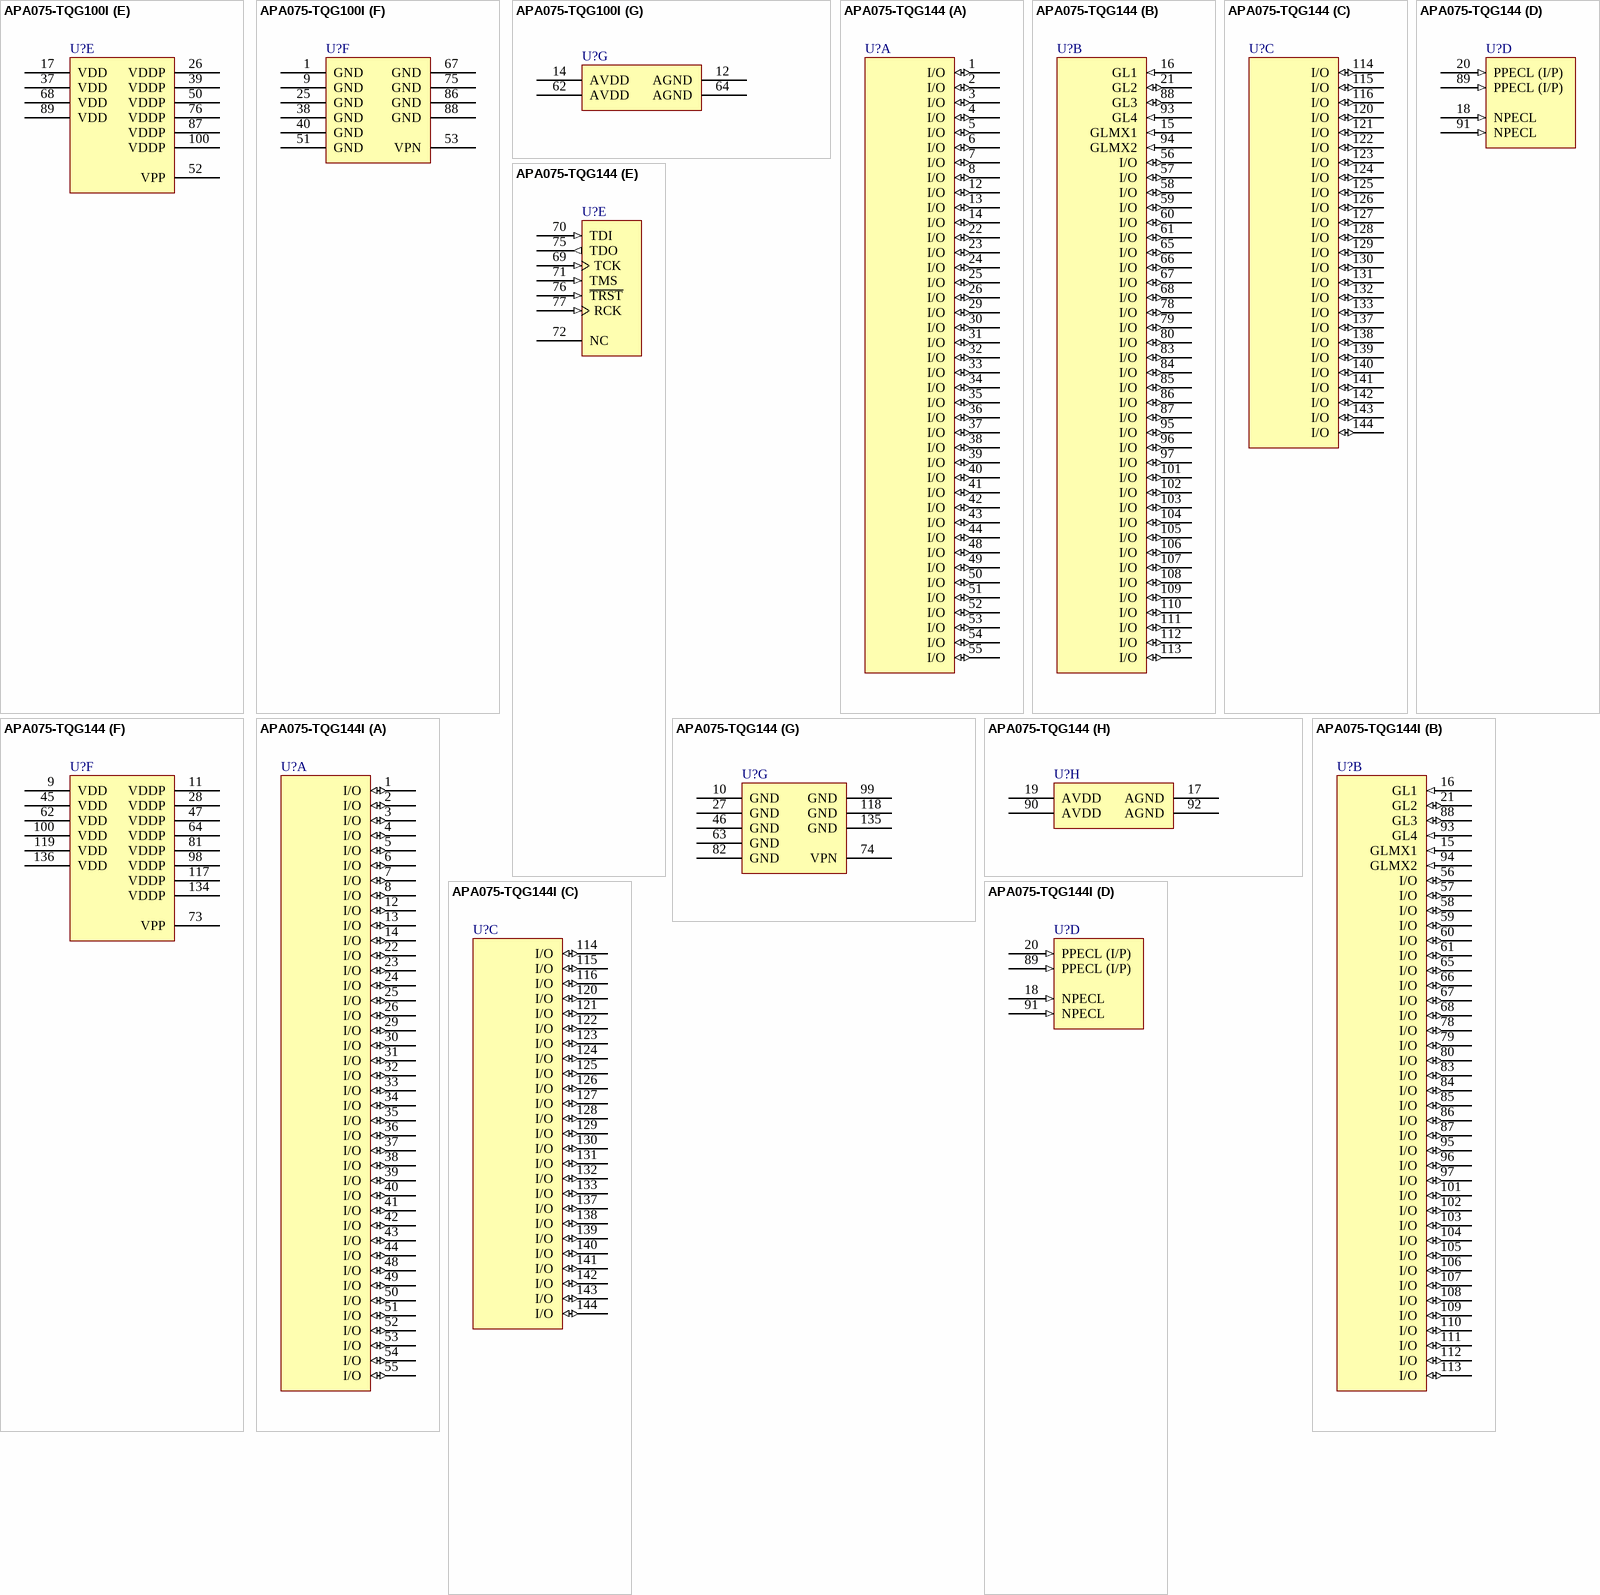
[diagram p11: symbols APA075-TQG100I to APA075-TQG144I]

## APA075-TQG100I
designator U?
ProASICPlus APA075 Flash FPGA, 66 User IOs, 100-Pin TQFP, Speed Grade Standard, Industrial Grade, Pb-Free; DatasheetVersion: v5.9, Jan-2010; PackageVersion: ver11.2, Nov-2009; PackageReference: TQ100; PackageDescription: 100-Pin Plastic Quad Flat Pack (TQ100); Code_JEDEC: MS-026-BED; ComponentLink1Description: Manufacturer URL; ComponentLink1URL: http://www.actel.com/; ComponentLink2Description: ProASIC PLUS Datasheet; ComponentLink2URL: http://www.actel.com/documents/ProASICPLUS_DS.pdf; ComponentLink3Description: Package Mechanical Drawings; ComponentLink3URL: http://www.actel.com/documents/PckgMechDrwngs.pdf; ComponentLink4Description: ProASIC PLUS Documents; ComponentLink4URL: http://www.actel.com/products/proasicplus/docs.aspx
footprint TQ100_N (Thin QFP, 100-Leads, Body 14x14mm, Pitch 0.5mm, IPC Medium Density)
footprint TQ100_L (Thin QFP, 100-Leads, Body 14x14mm, Pitch 0.5mm, IPC High Density)
footprint TQ100_M (Thin QFP, 100-Leads, Body 14x14mm, Pitch 0.5mm, IPC Low Density)
part A pins: 2 I/O (io), 3 I/O (io), 4 I/O (io), 5 I/O (io), 6 I/O (io), 7 I/O (io), 8 I/O (io), 10 I/O (GLMX1) (io), 11 GL1 (io), 16 GL2 (io), 18 I/O (io), 19 I/O (io), 20 I/O (io), 21 I/O (io), 22 I/O (io), 23 I/O (io), 24 I/O (io), 27 I/O (io), 28 I/O (io), 29 I/O (io), 30 I/O (io), 31 I/O (io), 32 I/O (io), 33 I/O (io), 34 I/O (io), 35 I/O (io), 36 I/O (io), 41 I/O (io), 42 I/O (io), 43 I/O (io), 44 I/O (io), 45 I/O (io), 46 I/O (io), 57 I/O (io), 58 I/O (io), 59 I/O (io), 60 GL3 (io), 65 GL4 (io), 66 I/O (GLMX2) (io), 69 I/O (io)
part B pins: 70 I/O (io), 71 I/O (io), 72 I/O (io), 73 I/O (io), 74 I/O (io), 77 I/O (io), 78 I/O (io), 79 I/O (io), 80 I/O (io), 81 I/O (io), 82 I/O (io), 83 I/O (io), 84 I/O (io), 85 I/O (io), 90 I/O (io), 91 I/O (io), 92 I/O (io), 93 I/O (io), 94 I/O (io), 95 I/O (io), 96 I/O (io), 97 I/O (io), 98 I/O (io), 99 I/O (io)
part C pins: 13 NPECL1 (in), 15 PPECL1 (I/P) (in), 61 PPECL2 (I/P) (in), 63 NPECL2 (in)
part D pins: 47 TCK (in), 48 TDI (in), 49 TMS (in), 54 TDO (out), 55 ~{TRST} (in), 56 RCK (in)
part E pins: 17 VDD (power), 26 VDDP (power), 37 VDD (power), 39 VDDP (power), 50 VDDP (power), 52 VPP (power), 68 VDD (power), 76 VDDP (power), 87 VDDP (power), 89 VDD (power), 100 VDDP (power)
part F pins: 1 GND (power), 9 GND (power), 25 GND (power), 38 GND (power), 40 GND (power), 51 GND (power), 53 VPN (power), 67 GND (power), 75 GND (power), 86 GND (power), 88 GND (power)
part G pins: 12 AGND (power), 14 AVDD (power), 62 AVDD (power), 64 AGND (power)

## APA075-TQG144
designator U?
ProASICPlus APA075 Flash FPGA, 107 User IOs, 144-Pin TQFP, Speed Grade Standard, Commercial Grade, Pb-Free; DatasheetVersion: v5.9, Jan-2010; PackageVersion: ver11.2, Nov-2009; PackageReference: TQ144; PackageDescription: 144-Pin Plastic Quad Flat Pack (TQ144); Code_JEDEC: MS-026-BFB; ComponentLink1Description: Manufacturer URL; ComponentLink1URL: http://www.actel.com/; ComponentLink2Description: ProASIC PLUS Datasheet; ComponentLink2URL: http://www.actel.com/documents/ProASICPLUS_DS.pdf; ComponentLink3Description: Package Mechanical Drawings; ComponentLink3URL: http://www.actel.com/documents/PckgMechDrwngs.pdf; ComponentLink4Description: ProASIC PLUS Documents; ComponentLink4URL: http://www.actel.com/products/proasicplus/docs.aspx
footprint TQ144_N (Thin QFP, 144-Leads, Body 20x20mm, Pitch 0.5mm, IPC Medium Density)
footprint TQ144_L (Thin QFP, 144-Leads, Body 20x20mm, Pitch 0.5mm, IPC High Density)
footprint TQ144_M (Thin QFP, 144-Leads, Body 20x20mm, Pitch 0.5mm, IPC Low Density)
part A pins: 1 I/O (io), 2 I/O (io), 3 I/O (io), 4 I/O (io), 5 I/O (io), 6 I/O (io), 7 I/O (io), 8 I/O (io), 12 I/O (io), 13 I/O (io), 14 I/O (io), 22 I/O (io), 23 I/O (io), 24 I/O (io), 25 I/O (io), 26 I/O (io), 29 I/O (io), 30 I/O (io), 31 I/O (io), 32 I/O (io), 33 I/O (io), 34 I/O (io), 35 I/O (io), 36 I/O (io), 37 I/O (io), 38 I/O (io), 39 I/O (io), 40 I/O (io), 41 I/O (io), 42 I/O (io), 43 I/O (io), 44 I/O (io), 48 I/O (io), 49 I/O (io), 50 I/O (io), 51 I/O (io), 52 I/O (io), 53 I/O (io), 54 I/O (io), 55 I/O (io)
part B pins: 15 GLMX1 (in), 16 GL1 (in), 21 GL2 (io), 56 I/O (io), 57 I/O (io), 58 I/O (io), 59 I/O (io), 60 I/O (io), 61 I/O (io), 65 I/O (io), 66 I/O (io), 67 I/O (io), 68 I/O (io), 78 I/O (io), 79 I/O (io), 80 I/O (io), 83 I/O (io), 84 I/O (io), 85 I/O (io), 86 I/O (io), 87 I/O (io), 88 GL3 (io), 93 GL4 (in), 94 GLMX2 (in), 95 I/O (io), 96 I/O (io), 97 I/O (io), 101 I/O (io), 102 I/O (io), 103 I/O (io), 104 I/O (io), 105 I/O (io), 106 I/O (io), 107 I/O (io), 108 I/O (io), 109 I/O (io), 110 I/O (io), 111 I/O (io), 112 I/O (io), 113 I/O (io)
part C pins: 114 I/O (io), 115 I/O (io), 116 I/O (io), 120 I/O (io), 121 I/O (io), 122 I/O (io), 123 I/O (io), 124 I/O (io), 125 I/O (io), 126 I/O (io), 127 I/O (io), 128 I/O (io), 129 I/O (io), 130 I/O (io), 131 I/O (io), 132 I/O (io), 133 I/O (io), 137 I/O (io), 138 I/O (io), 139 I/O (io), 140 I/O (io), 141 I/O (io), 142 I/O (io), 143 I/O (io), 144 I/O (io)
part D pins: 18 NPECL (in), 20 PPECL (I/P) (in), 89 PPECL (I/P) (in), 91 NPECL (in)
part E pins: 69 TCK (in), 70 TDI (in), 71 TMS (in), 72 NC, 75 TDO (out), 76 ~{TRST} (in), 77 RCK (in)
part F pins: 9 VDD (power), 11 VDDP (power), 28 VDDP (power), 45 VDD (power), 47 VDDP (power), 62 VDD (power), 64 VDDP (power), 73 VPP (power), 81 VDDP (power), 98 VDDP (power), 100 VDD (power), 117 VDDP (power), 119 VDD (power), 134 VDDP (power), 136 VDD (power)
part G pins: 10 GND (power), 27 GND (power), 46 GND (power), 63 GND (power), 74 VPN (power), 82 GND (power), 99 GND (power), 118 GND (power), 135 GND (power)
part H pins: 17 AGND (power), 19 AVDD (power), 90 AVDD (power), 92 AGND (power)

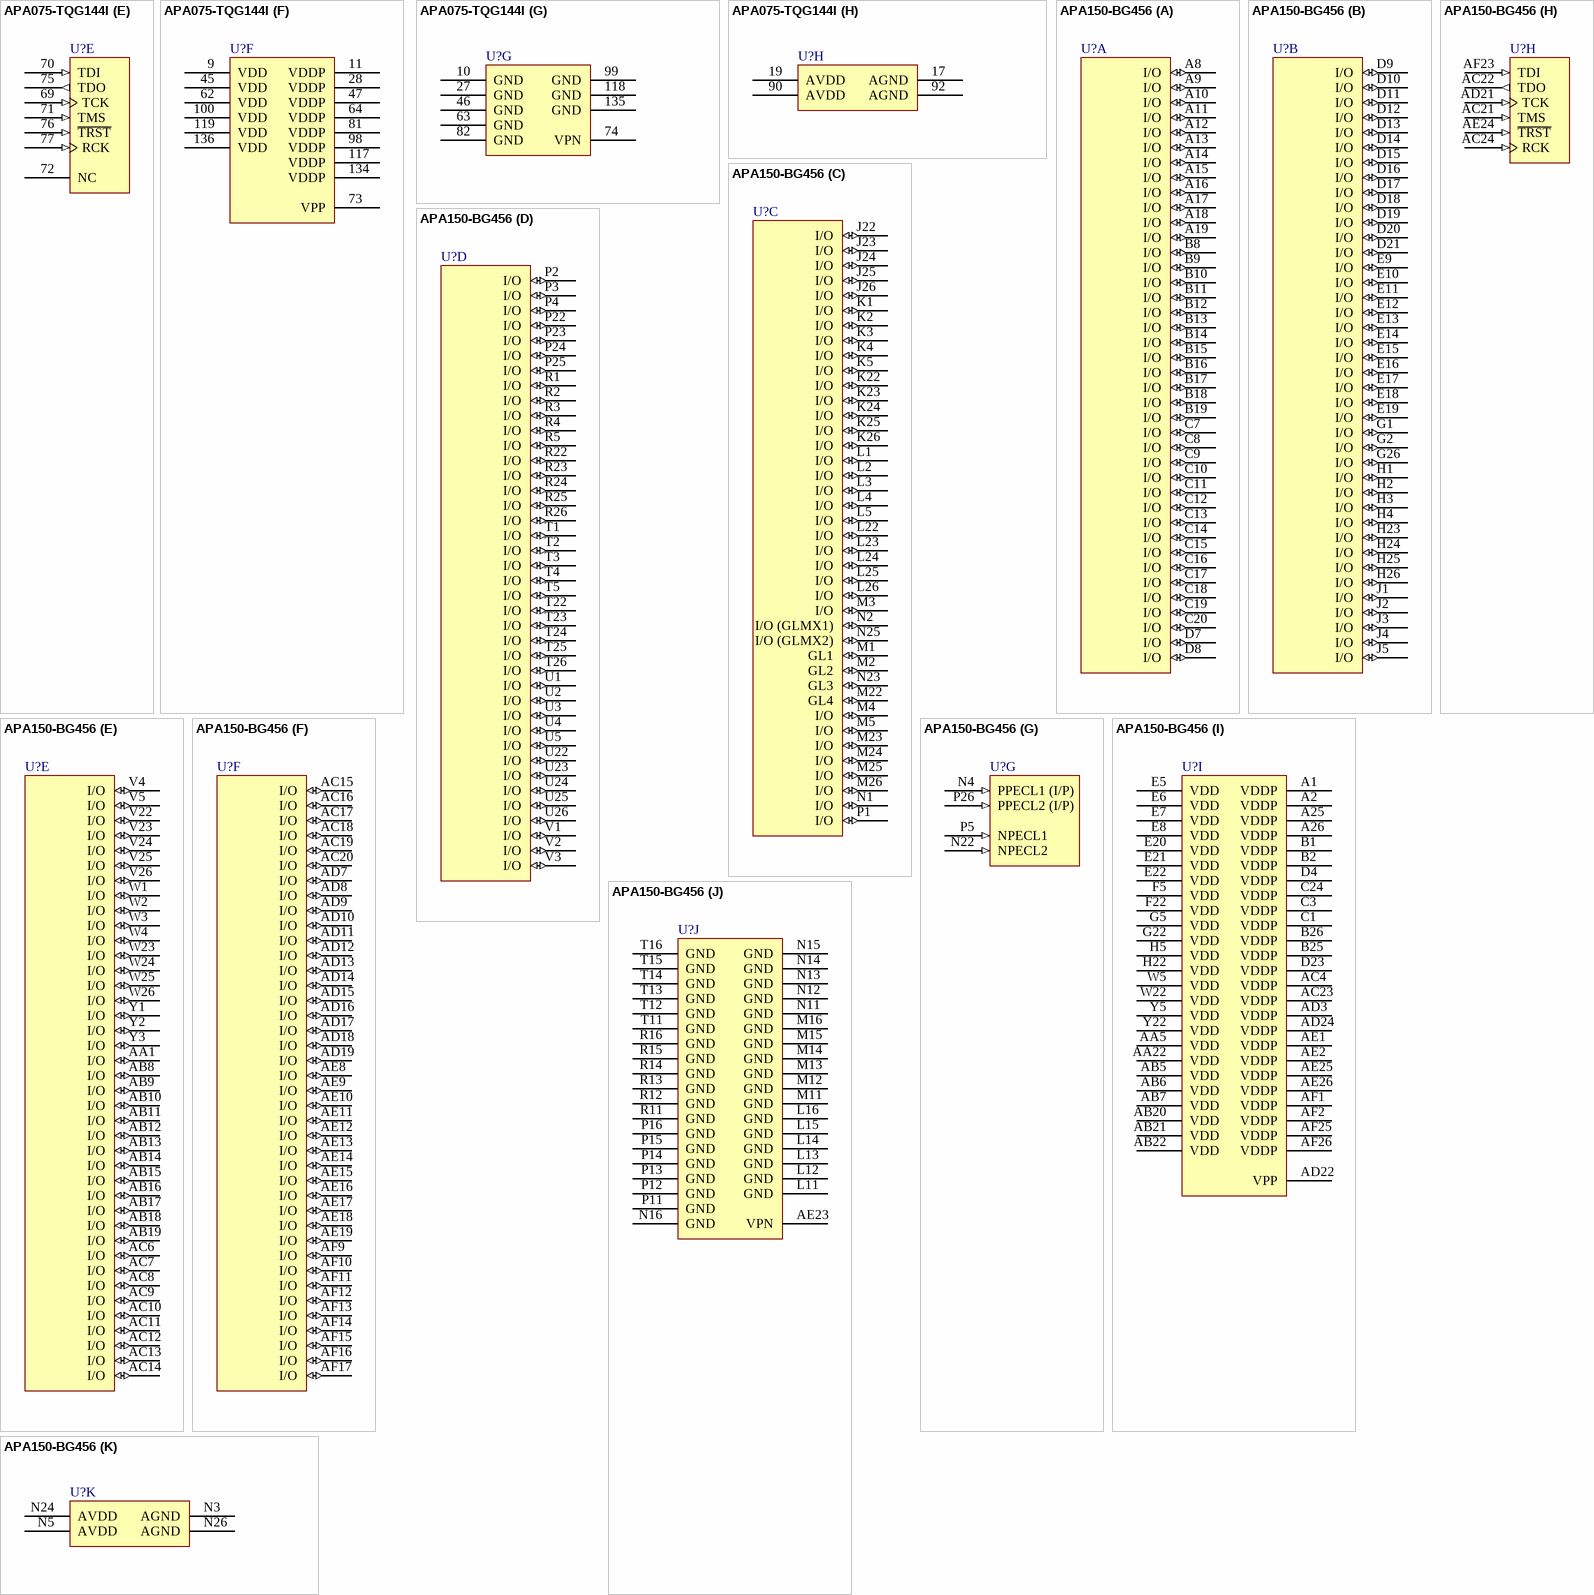
[diagram p12: symbols APA075-TQG144I to APA150-BG456]

## APA075-TQG144I
designator U?
ProASICPlus APA075 Flash FPGA, 107 User IOs, 144-Pin TQFP, Speed Grade Standard, Industrial Grade, Pb-Free; DatasheetVersion: v5.9, Jan-2010; PackageVersion: ver11.2, Nov-2009; PackageReference: TQ144; PackageDescription: 144-Pin Plastic Quad Flat Pack (TQ144); Code_JEDEC: MS-026-BFB; ComponentLink1Description: Manufacturer URL; ComponentLink1URL: http://www.actel.com/; ComponentLink2Description: ProASIC PLUS Datasheet; ComponentLink2URL: http://www.actel.com/documents/ProASICPLUS_DS.pdf; ComponentLink3Description: Package Mechanical Drawings; ComponentLink3URL: http://www.actel.com/documents/PckgMechDrwngs.pdf; ComponentLink4Description: ProASIC PLUS Documents; ComponentLink4URL: http://www.actel.com/products/proasicplus/docs.aspx
footprint TQ144_N (Thin QFP, 144-Leads, Body 20x20mm, Pitch 0.5mm, IPC Medium Density)
footprint TQ144_L (Thin QFP, 144-Leads, Body 20x20mm, Pitch 0.5mm, IPC High Density)
footprint TQ144_M (Thin QFP, 144-Leads, Body 20x20mm, Pitch 0.5mm, IPC Low Density)
part A pins: 1 I/O (io), 2 I/O (io), 3 I/O (io), 4 I/O (io), 5 I/O (io), 6 I/O (io), 7 I/O (io), 8 I/O (io), 12 I/O (io), 13 I/O (io), 14 I/O (io), 22 I/O (io), 23 I/O (io), 24 I/O (io), 25 I/O (io), 26 I/O (io), 29 I/O (io), 30 I/O (io), 31 I/O (io), 32 I/O (io), 33 I/O (io), 34 I/O (io), 35 I/O (io), 36 I/O (io), 37 I/O (io), 38 I/O (io), 39 I/O (io), 40 I/O (io), 41 I/O (io), 42 I/O (io), 43 I/O (io), 44 I/O (io), 48 I/O (io), 49 I/O (io), 50 I/O (io), 51 I/O (io), 52 I/O (io), 53 I/O (io), 54 I/O (io), 55 I/O (io)
part B pins: 15 GLMX1 (in), 16 GL1 (in), 21 GL2 (io), 56 I/O (io), 57 I/O (io), 58 I/O (io), 59 I/O (io), 60 I/O (io), 61 I/O (io), 65 I/O (io), 66 I/O (io), 67 I/O (io), 68 I/O (io), 78 I/O (io), 79 I/O (io), 80 I/O (io), 83 I/O (io), 84 I/O (io), 85 I/O (io), 86 I/O (io), 87 I/O (io), 88 GL3 (io), 93 GL4 (in), 94 GLMX2 (in), 95 I/O (io), 96 I/O (io), 97 I/O (io), 101 I/O (io), 102 I/O (io), 103 I/O (io), 104 I/O (io), 105 I/O (io), 106 I/O (io), 107 I/O (io), 108 I/O (io), 109 I/O (io), 110 I/O (io), 111 I/O (io), 112 I/O (io), 113 I/O (io)
part C pins: 114 I/O (io), 115 I/O (io), 116 I/O (io), 120 I/O (io), 121 I/O (io), 122 I/O (io), 123 I/O (io), 124 I/O (io), 125 I/O (io), 126 I/O (io), 127 I/O (io), 128 I/O (io), 129 I/O (io), 130 I/O (io), 131 I/O (io), 132 I/O (io), 133 I/O (io), 137 I/O (io), 138 I/O (io), 139 I/O (io), 140 I/O (io), 141 I/O (io), 142 I/O (io), 143 I/O (io), 144 I/O (io)
part D pins: 18 NPECL (in), 20 PPECL (I/P) (in), 89 PPECL (I/P) (in), 91 NPECL (in)
part E pins: 69 TCK (in), 70 TDI (in), 71 TMS (in), 72 NC, 75 TDO (out), 76 ~{TRST} (in), 77 RCK (in)
part F pins: 9 VDD (power), 11 VDDP (power), 28 VDDP (power), 45 VDD (power), 47 VDDP (power), 62 VDD (power), 64 VDDP (power), 73 VPP (power), 81 VDDP (power), 98 VDDP (power), 100 VDD (power), 117 VDDP (power), 119 VDD (power), 134 VDDP (power), 136 VDD (power)
part G pins: 10 GND (power), 27 GND (power), 46 GND (power), 63 GND (power), 74 VPN (power), 82 GND (power), 99 GND (power), 118 GND (power), 135 GND (power)
part H pins: 17 AGND (power), 19 AVDD (power), 90 AVDD (power), 92 AGND (power)

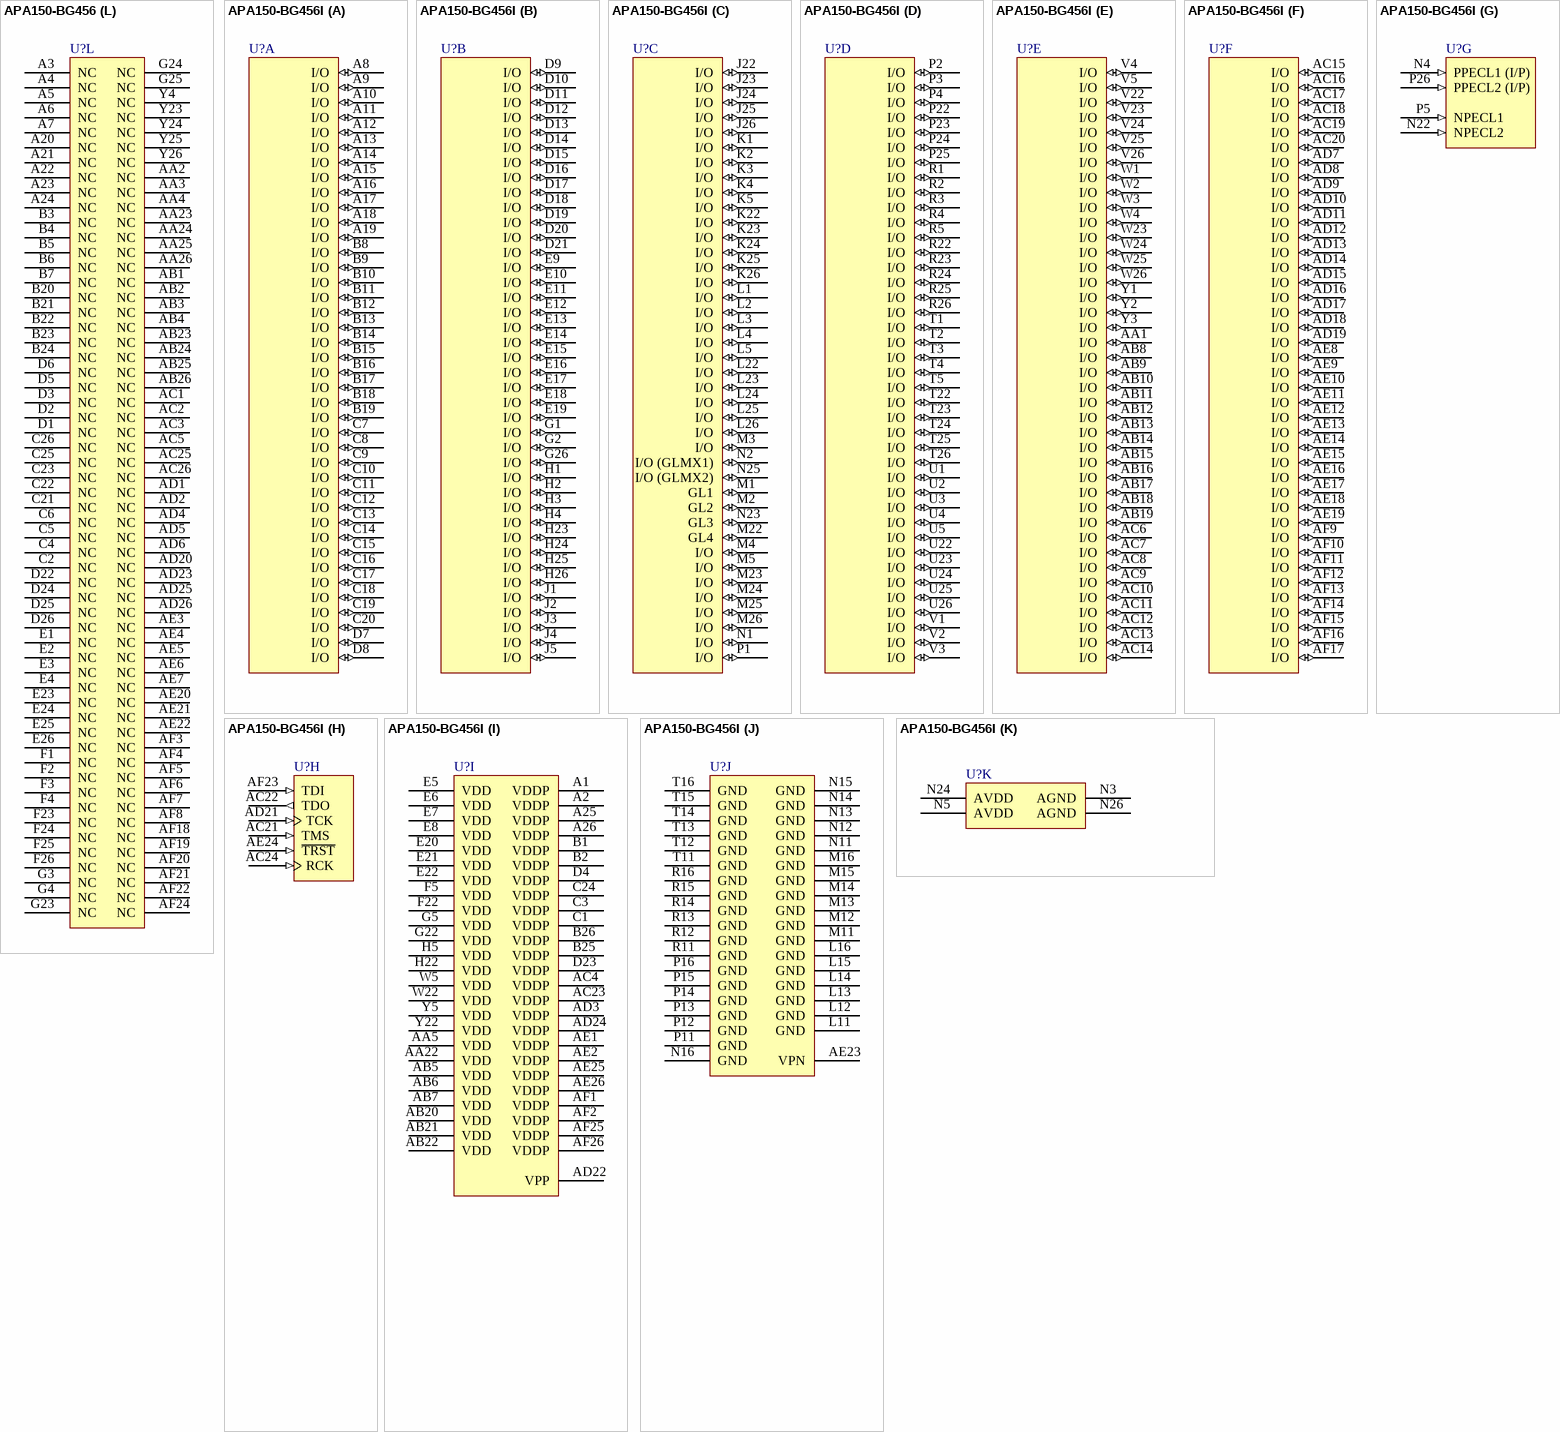
[diagram p13: symbols APA150-BG456 to APA150-BG456I]

## APA150-BG456
designator U?
ProASICPlus APA150 Flash FPGA, 242 User IOs, 456-Pin PBGA, Speed Grade Standard, Commercial Grade; DatasheetVersion: v5.9, Jan-2010; PackageVersion: ver11.2, Nov-2009; PackageReference: BG456; PackageDescription: 456-Ball Plastic Ball Grid Array (BG456); Code_JEDEC: MS-034-BAR-2; ComponentLink1Description: Manufacturer URL; ComponentLink1URL: http://www.actel.com/; ComponentLink2Description: ProASIC PLUS Datasheet; ComponentLink2URL: http://www.actel.com/documents/ProASICPLUS_DS.pdf; ComponentLink3Description: Package Mechanical Drawings; ComponentLink3URL: http://www.actel.com/documents/PckgMechDrwngs.pdf; ComponentLink4Description: ProASIC PLUS Documents; ComponentLink4URL: http://www.actel.com/products/proasicplus/docs.aspx
footprint BG456 (BGA, 456-Leads, Body 35x35mm, Pitch 1.27mm)
part A pins: A8 I/O (io), A9 I/O (io), A10 I/O (io), A11 I/O (io), A12 I/O (io), A13 I/O (io), A14 I/O (io), A15 I/O (io), A16 I/O (io), A17 I/O (io), A18 I/O (io), A19 I/O (io), B8 I/O (io), B9 I/O (io), B10 I/O (io), B11 I/O (io), B12 I/O (io), B13 I/O (io), B14 I/O (io), B15 I/O (io), B16 I/O (io), B17 I/O (io), B18 I/O (io), B19 I/O (io), C7 I/O (io), C8 I/O (io), C9 I/O (io), C10 I/O (io), C11 I/O (io), C12 I/O (io), C13 I/O (io), C14 I/O (io), C15 I/O (io), C16 I/O (io), C17 I/O (io), C18 I/O (io), C19 I/O (io), C20 I/O (io), D7 I/O (io), D8 I/O (io)
part B pins: D9 I/O (io), D10 I/O (io), D11 I/O (io), D12 I/O (io), D13 I/O (io), D14 I/O (io), D15 I/O (io), D16 I/O (io), D17 I/O (io), D18 I/O (io), D19 I/O (io), D20 I/O (io), D21 I/O (io), E9 I/O (io), E10 I/O (io), E11 I/O (io), E12 I/O (io), E13 I/O (io), E14 I/O (io), E15 I/O (io), E16 I/O (io), E17 I/O (io), E18 I/O (io), E19 I/O (io), G1 I/O (io), G2 I/O (io), G26 I/O (io), H1 I/O (io), H2 I/O (io), H3 I/O (io), H4 I/O (io), H23 I/O (io), H24 I/O (io), H25 I/O (io), H26 I/O (io), J1 I/O (io), J2 I/O (io), J3 I/O (io), J4 I/O (io), J5 I/O (io)
part C pins: J22 I/O (io), J23 I/O (io), J24 I/O (io), J25 I/O (io), J26 I/O (io), K1 I/O (io), K2 I/O (io), K3 I/O (io), K4 I/O (io), K5 I/O (io), K22 I/O (io), K23 I/O (io), K24 I/O (io), K25 I/O (io), K26 I/O (io), L1 I/O (io), L2 I/O (io), L3 I/O (io), L4 I/O (io), L5 I/O (io), L22 I/O (io), L23 I/O (io), L24 I/O (io), L25 I/O (io), L26 I/O (io), M1 GL1 (io), M2 GL2 (io), M3 I/O (io), M4 I/O (io), M5 I/O (io), M22 GL4 (io), M23 I/O (io), M24 I/O (io), M25 I/O (io), M26 I/O (io), N1 I/O (io), N2 I/O (GLMX1) (io), N23 GL3 (io), N25 I/O (GLMX2) (io), P1 I/O (io)
part D pins: P2 I/O (io), P3 I/O (io), P4 I/O (io), P22 I/O (io), P23 I/O (io), P24 I/O (io), P25 I/O (io), R1 I/O (io), R2 I/O (io), R3 I/O (io), R4 I/O (io), R5 I/O (io), R22 I/O (io), R23 I/O (io), R24 I/O (io), R25 I/O (io), R26 I/O (io), T1 I/O (io), T2 I/O (io), T3 I/O (io), T4 I/O (io), T5 I/O (io), T22 I/O (io), T23 I/O (io), T24 I/O (io), T25 I/O (io), T26 I/O (io), U1 I/O (io), U2 I/O (io), U3 I/O (io), U4 I/O (io), U5 I/O (io), U22 I/O (io), U23 I/O (io), U24 I/O (io), U25 I/O (io), U26 I/O (io), V1 I/O (io), V2 I/O (io), V3 I/O (io)
part E pins: AA1 I/O (io), AB8 I/O (io), AB9 I/O (io), AB10 I/O (io), AB11 I/O (io), AB12 I/O (io), AB13 I/O (io), AB14 I/O (io), AB15 I/O (io), AB16 I/O (io), AB17 I/O (io), AB18 I/O (io), AB19 I/O (io), AC6 I/O (io), AC7 I/O (io), AC8 I/O (io), AC9 I/O (io), AC10 I/O (io), AC11 I/O (io), AC12 I/O (io), AC13 I/O (io), AC14 I/O (io), V4 I/O (io), V5 I/O (io), V22 I/O (io), V23 I/O (io), V24 I/O (io), V25 I/O (io), V26 I/O (io), W1 I/O (io), W2 I/O (io), W3 I/O (io), W4 I/O (io), W23 I/O (io), W24 I/O (io), W25 I/O (io), W26 I/O (io), Y1 I/O (io), Y2 I/O (io), Y3 I/O (io)
part F pins: AC15 I/O (io), AC16 I/O (io), AC17 I/O (io), AC18 I/O (io), AC19 I/O (io), AC20 I/O (io), AD7 I/O (io), AD8 I/O (io), AD9 I/O (io), AD10 I/O (io), AD11 I/O (io), AD12 I/O (io), AD13 I/O (io), AD14 I/O (io), AD15 I/O (io), AD16 I/O (io), AD17 I/O (io), AD18 I/O (io), AD19 I/O (io), AE8 I/O (io), AE9 I/O (io), AE10 I/O (io), AE11 I/O (io), AE12 I/O (io), AE13 I/O (io), AE14 I/O (io), AE15 I/O (io), AE16 I/O (io), AE17 I/O (io), AE18 I/O (io), AE19 I/O (io), AF9 I/O (io), AF10 I/O (io), AF11 I/O (io), AF12 I/O (io), AF13 I/O (io), AF14 I/O (io), AF15 I/O (io), AF16 I/O (io), AF17 I/O (io)
part G pins: N4 PPECL1 (I/P) (in), N22 NPECL2 (in), P5 NPECL1 (in), P26 PPECL2 (I/P) (in)
part H pins: AC21 TMS (in), AC22 TDO (out), AC24 RCK (in), AD21 TCK (in), AE24 ~{TRST} (in), AF23 TDI (in)
part I pins: A1 VDDP (power), A2 VDDP (power), A25 VDDP (power), A26 VDDP (power), AA5 VDD (power), AA22 VDD (power), AB5 VDD (power), AB6 VDD (power), AB7 VDD (power), AB20 VDD (power), AB21 VDD (power), AB22 VDD (power), AC4 VDDP (power), AC23 VDDP (power), AD3 VDDP (power), AD22 VPP (power), AD24 VDDP (power), AE1 VDDP (power), AE2 VDDP (power), AE25 VDDP (power), AE26 VDDP (power), AF1 VDDP (power), AF2 VDDP (power), AF25 VDDP (power), AF26 VDDP (power), B1 VDDP (power), B2 VDDP (power), B25 VDDP (power), B26 VDDP (power), C1 VDDP (power), C3 VDDP (power), C24 VDDP (power), D4 VDDP (power), D23 VDDP (power), E5 VDD (power), E6 VDD (power), E7 VDD (power), E8 VDD (power), E20 VDD (power), E21 VDD (power), E22 VDD (power), F5 VDD (power), F22 VDD (power), G5 VDD (power), G22 VDD (power), H5 VDD (power), H22 VDD (power), W5 VDD (power), W22 VDD (power), Y5 VDD (power), Y22 VDD (power)
part J pins: AE23 VPN (power), L11 GND (power), L12 GND (power), L13 GND (power), L14 GND (power), L15 GND (power), L16 GND (power), M11 GND (power), M12 GND (power), M13 GND (power), M14 GND (power), M15 GND (power), M16 GND (power), N11 GND (power), N12 GND (power), N13 GND (power), N14 GND (power), N15 GND (power), N16 GND (power), P11 GND (power), P12 GND (power), P13 GND (power), P14 GND (power), P15 GND (power), P16 GND (power), R11 GND (power), R12 GND (power), R13 GND (power), R14 GND (power), R15 GND (power), R16 GND (power), T11 GND (power), T12 GND (power), T13 GND (power), T14 GND (power), T15 GND (power), T16 GND (power)
part K pins: N3 AGND (power), N5 AVDD (power), N24 AVDD (power), N26 AGND (power)
part L pins: A3 NC, A4 NC, A5 NC, A6 NC, A7 NC, A20 NC, A21 NC, A22 NC, A23 NC, A24 NC, AA2 NC, AA3 NC, AA4 NC, AA23 NC, AA24 NC, AA25 NC, AA26 NC, AB1 NC, AB2 NC, AB3 NC, AB4 NC, AB23 NC, AB24 NC, AB25 NC, AB26 NC, AC1 NC, AC2 NC, AC3 NC, AC5 NC, AC25 NC, AC26 NC, AD1 NC, AD2 NC, AD4 NC, AD5 NC, AD6 NC, AD20 NC, AD23 NC, AD25 NC, AD26 NC, AE3 NC, AE4 NC, AE5 NC, AE6 NC, AE7 NC, AE20 NC, AE21 NC, AE22 NC, AF3 NC, AF4 NC, AF5 NC, AF6 NC, AF7 NC, AF8 NC, AF18 NC, AF19 NC, AF20 NC, AF21 NC, AF22 NC, AF24 NC, B3 NC, B4 NC, B5 NC, B6 NC, B7 NC, B20 NC, B21 NC, B22 NC, B23 NC, B24 NC, C2 NC, C4 NC, C5 NC, C6 NC, C21 NC, C22 NC, C23 NC, C25 NC, C26 NC, D1 NC, D2 NC, D3 NC, D5 NC, D6 NC, D22 NC, D24 NC, D25 NC, D26 NC, E1 NC, E2 NC, E3 NC, E4 NC, E23 NC, E24 NC, E25 NC, E26 NC, F1 NC, F2 NC, F3 NC, F4 NC, F23 NC, F24 NC, F25 NC, F26 NC, G3 NC, G4 NC, G23 NC, G24 NC, G25 NC, Y4 NC, Y23 NC, Y24 NC, Y25 NC, Y26 NC

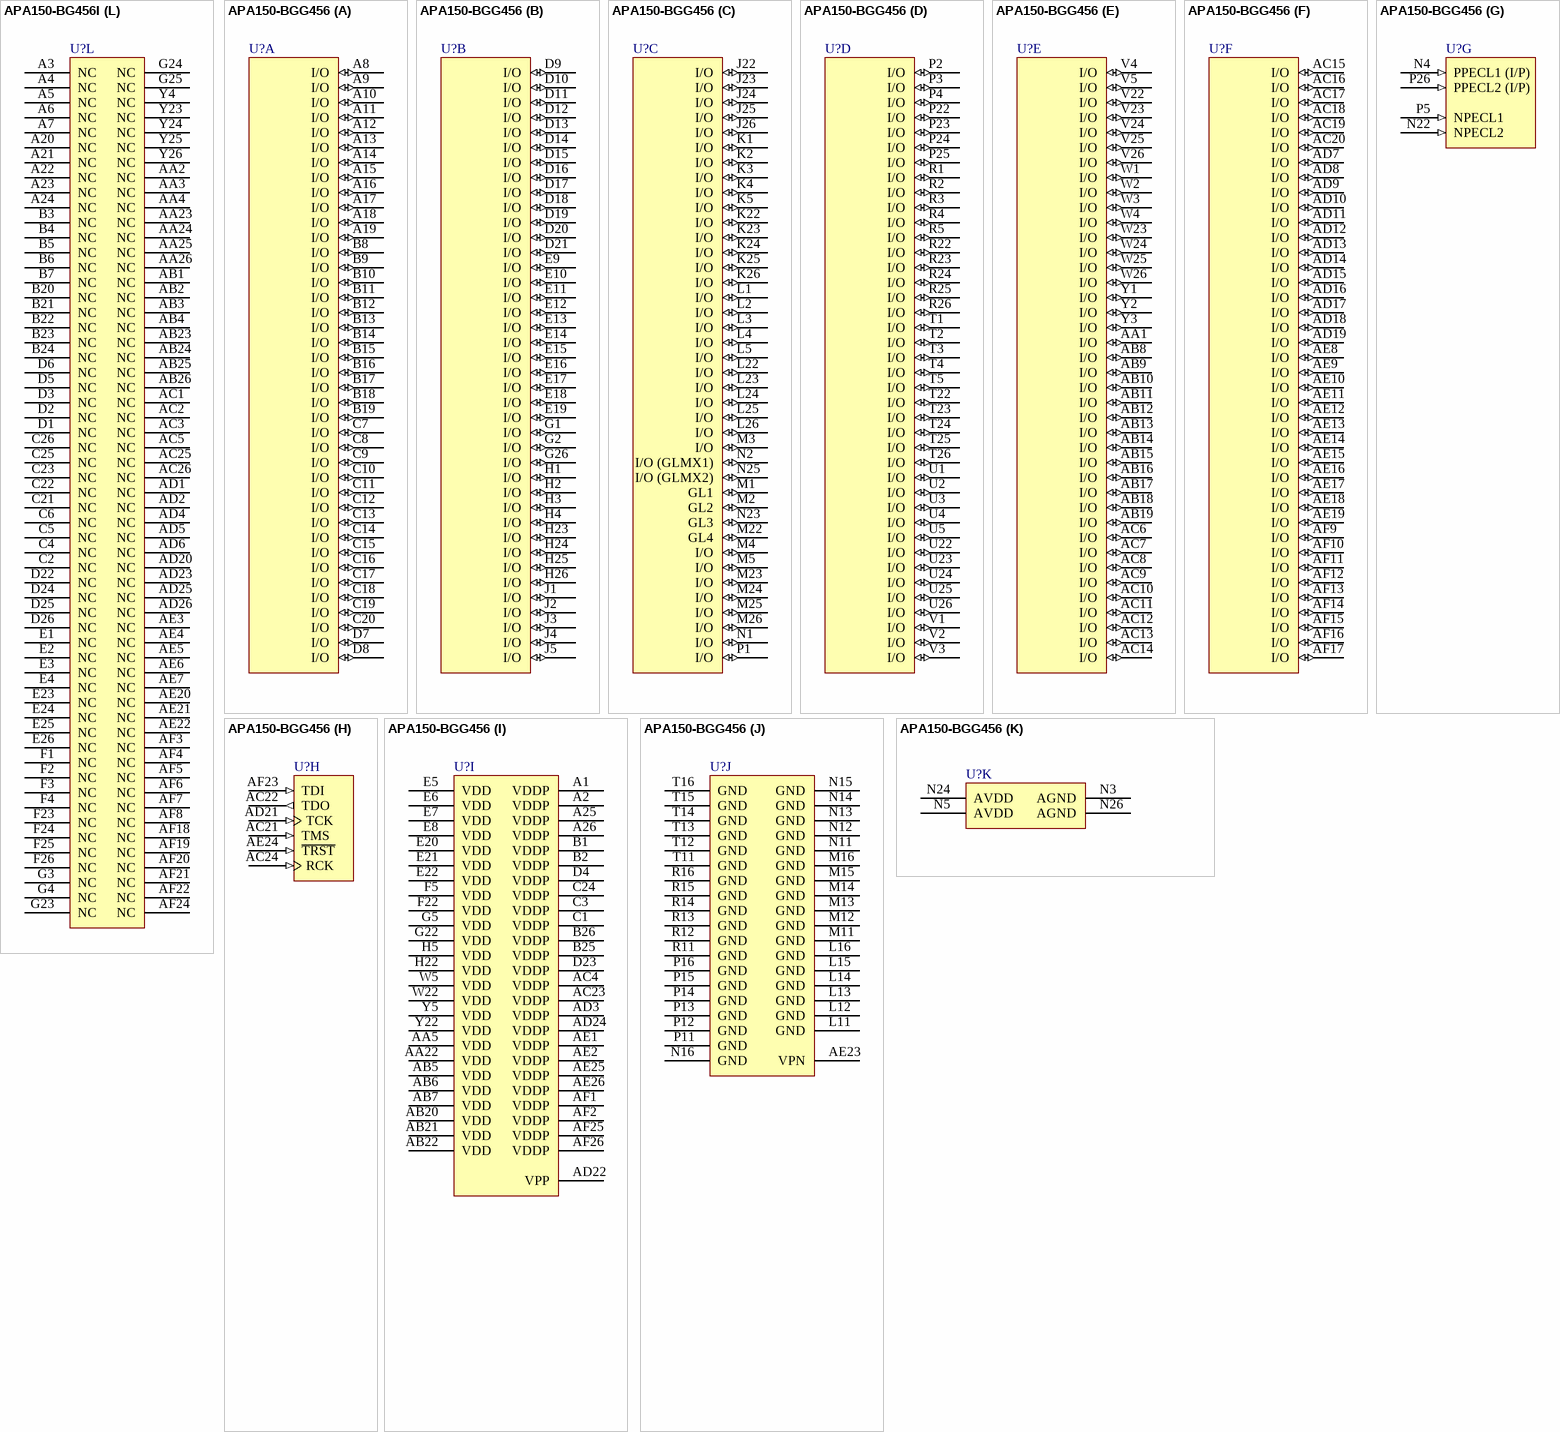
[diagram p14: symbols APA150-BG456I to APA150-BGG456]

## APA150-BG456I
designator U?
ProASICPlus APA150 Flash FPGA, 242 User IOs, 456-Pin PBGA, Speed Grade Standard, Industrial Grade; DatasheetVersion: v5.9, Jan-2010; PackageVersion: ver11.2, Nov-2009; PackageReference: BG456; PackageDescription: 456-Ball Plastic Ball Grid Array (BG456); Code_JEDEC: MS-034-BAR-2; ComponentLink1Description: Manufacturer URL; ComponentLink1URL: http://www.actel.com/; ComponentLink2Description: ProASIC PLUS Datasheet; ComponentLink2URL: http://www.actel.com/documents/ProASICPLUS_DS.pdf; ComponentLink3Description: Package Mechanical Drawings; ComponentLink3URL: http://www.actel.com/documents/PckgMechDrwngs.pdf; ComponentLink4Description: ProASIC PLUS Documents; ComponentLink4URL: http://www.actel.com/products/proasicplus/docs.aspx
footprint BG456 (BGA, 456-Leads, Body 35x35mm, Pitch 1.27mm)
part A pins: A8 I/O (io), A9 I/O (io), A10 I/O (io), A11 I/O (io), A12 I/O (io), A13 I/O (io), A14 I/O (io), A15 I/O (io), A16 I/O (io), A17 I/O (io), A18 I/O (io), A19 I/O (io), B8 I/O (io), B9 I/O (io), B10 I/O (io), B11 I/O (io), B12 I/O (io), B13 I/O (io), B14 I/O (io), B15 I/O (io), B16 I/O (io), B17 I/O (io), B18 I/O (io), B19 I/O (io), C7 I/O (io), C8 I/O (io), C9 I/O (io), C10 I/O (io), C11 I/O (io), C12 I/O (io), C13 I/O (io), C14 I/O (io), C15 I/O (io), C16 I/O (io), C17 I/O (io), C18 I/O (io), C19 I/O (io), C20 I/O (io), D7 I/O (io), D8 I/O (io)
part B pins: D9 I/O (io), D10 I/O (io), D11 I/O (io), D12 I/O (io), D13 I/O (io), D14 I/O (io), D15 I/O (io), D16 I/O (io), D17 I/O (io), D18 I/O (io), D19 I/O (io), D20 I/O (io), D21 I/O (io), E9 I/O (io), E10 I/O (io), E11 I/O (io), E12 I/O (io), E13 I/O (io), E14 I/O (io), E15 I/O (io), E16 I/O (io), E17 I/O (io), E18 I/O (io), E19 I/O (io), G1 I/O (io), G2 I/O (io), G26 I/O (io), H1 I/O (io), H2 I/O (io), H3 I/O (io), H4 I/O (io), H23 I/O (io), H24 I/O (io), H25 I/O (io), H26 I/O (io), J1 I/O (io), J2 I/O (io), J3 I/O (io), J4 I/O (io), J5 I/O (io)
part C pins: J22 I/O (io), J23 I/O (io), J24 I/O (io), J25 I/O (io), J26 I/O (io), K1 I/O (io), K2 I/O (io), K3 I/O (io), K4 I/O (io), K5 I/O (io), K22 I/O (io), K23 I/O (io), K24 I/O (io), K25 I/O (io), K26 I/O (io), L1 I/O (io), L2 I/O (io), L3 I/O (io), L4 I/O (io), L5 I/O (io), L22 I/O (io), L23 I/O (io), L24 I/O (io), L25 I/O (io), L26 I/O (io), M1 GL1 (io), M2 GL2 (io), M3 I/O (io), M4 I/O (io), M5 I/O (io), M22 GL4 (io), M23 I/O (io), M24 I/O (io), M25 I/O (io), M26 I/O (io), N1 I/O (io), N2 I/O (GLMX1) (io), N23 GL3 (io), N25 I/O (GLMX2) (io), P1 I/O (io)
part D pins: P2 I/O (io), P3 I/O (io), P4 I/O (io), P22 I/O (io), P23 I/O (io), P24 I/O (io), P25 I/O (io), R1 I/O (io), R2 I/O (io), R3 I/O (io), R4 I/O (io), R5 I/O (io), R22 I/O (io), R23 I/O (io), R24 I/O (io), R25 I/O (io), R26 I/O (io), T1 I/O (io), T2 I/O (io), T3 I/O (io), T4 I/O (io), T5 I/O (io), T22 I/O (io), T23 I/O (io), T24 I/O (io), T25 I/O (io), T26 I/O (io), U1 I/O (io), U2 I/O (io), U3 I/O (io), U4 I/O (io), U5 I/O (io), U22 I/O (io), U23 I/O (io), U24 I/O (io), U25 I/O (io), U26 I/O (io), V1 I/O (io), V2 I/O (io), V3 I/O (io)
part E pins: AA1 I/O (io), AB8 I/O (io), AB9 I/O (io), AB10 I/O (io), AB11 I/O (io), AB12 I/O (io), AB13 I/O (io), AB14 I/O (io), AB15 I/O (io), AB16 I/O (io), AB17 I/O (io), AB18 I/O (io), AB19 I/O (io), AC6 I/O (io), AC7 I/O (io), AC8 I/O (io), AC9 I/O (io), AC10 I/O (io), AC11 I/O (io), AC12 I/O (io), AC13 I/O (io), AC14 I/O (io), V4 I/O (io), V5 I/O (io), V22 I/O (io), V23 I/O (io), V24 I/O (io), V25 I/O (io), V26 I/O (io), W1 I/O (io), W2 I/O (io), W3 I/O (io), W4 I/O (io), W23 I/O (io), W24 I/O (io), W25 I/O (io), W26 I/O (io), Y1 I/O (io), Y2 I/O (io), Y3 I/O (io)
part F pins: AC15 I/O (io), AC16 I/O (io), AC17 I/O (io), AC18 I/O (io), AC19 I/O (io), AC20 I/O (io), AD7 I/O (io), AD8 I/O (io), AD9 I/O (io), AD10 I/O (io), AD11 I/O (io), AD12 I/O (io), AD13 I/O (io), AD14 I/O (io), AD15 I/O (io), AD16 I/O (io), AD17 I/O (io), AD18 I/O (io), AD19 I/O (io), AE8 I/O (io), AE9 I/O (io), AE10 I/O (io), AE11 I/O (io), AE12 I/O (io), AE13 I/O (io), AE14 I/O (io), AE15 I/O (io), AE16 I/O (io), AE17 I/O (io), AE18 I/O (io), AE19 I/O (io), AF9 I/O (io), AF10 I/O (io), AF11 I/O (io), AF12 I/O (io), AF13 I/O (io), AF14 I/O (io), AF15 I/O (io), AF16 I/O (io), AF17 I/O (io)
part G pins: N4 PPECL1 (I/P) (in), N22 NPECL2 (in), P5 NPECL1 (in), P26 PPECL2 (I/P) (in)
part H pins: AC21 TMS (in), AC22 TDO (out), AC24 RCK (in), AD21 TCK (in), AE24 ~{TRST} (in), AF23 TDI (in)
part I pins: A1 VDDP (power), A2 VDDP (power), A25 VDDP (power), A26 VDDP (power), AA5 VDD (power), AA22 VDD (power), AB5 VDD (power), AB6 VDD (power), AB7 VDD (power), AB20 VDD (power), AB21 VDD (power), AB22 VDD (power), AC4 VDDP (power), AC23 VDDP (power), AD3 VDDP (power), AD22 VPP (power), AD24 VDDP (power), AE1 VDDP (power), AE2 VDDP (power), AE25 VDDP (power), AE26 VDDP (power), AF1 VDDP (power), AF2 VDDP (power), AF25 VDDP (power), AF26 VDDP (power), B1 VDDP (power), B2 VDDP (power), B25 VDDP (power), B26 VDDP (power), C1 VDDP (power), C3 VDDP (power), C24 VDDP (power), D4 VDDP (power), D23 VDDP (power), E5 VDD (power), E6 VDD (power), E7 VDD (power), E8 VDD (power), E20 VDD (power), E21 VDD (power), E22 VDD (power), F5 VDD (power), F22 VDD (power), G5 VDD (power), G22 VDD (power), H5 VDD (power), H22 VDD (power), W5 VDD (power), W22 VDD (power), Y5 VDD (power), Y22 VDD (power)
part J pins: AE23 VPN (power), L11 GND (power), L12 GND (power), L13 GND (power), L14 GND (power), L15 GND (power), L16 GND (power), M11 GND (power), M12 GND (power), M13 GND (power), M14 GND (power), M15 GND (power), M16 GND (power), N11 GND (power), N12 GND (power), N13 GND (power), N14 GND (power), N15 GND (power), N16 GND (power), P11 GND (power), P12 GND (power), P13 GND (power), P14 GND (power), P15 GND (power), P16 GND (power), R11 GND (power), R12 GND (power), R13 GND (power), R14 GND (power), R15 GND (power), R16 GND (power), T11 GND (power), T12 GND (power), T13 GND (power), T14 GND (power), T15 GND (power), T16 GND (power)
part K pins: N3 AGND (power), N5 AVDD (power), N24 AVDD (power), N26 AGND (power)
part L pins: A3 NC, A4 NC, A5 NC, A6 NC, A7 NC, A20 NC, A21 NC, A22 NC, A23 NC, A24 NC, AA2 NC, AA3 NC, AA4 NC, AA23 NC, AA24 NC, AA25 NC, AA26 NC, AB1 NC, AB2 NC, AB3 NC, AB4 NC, AB23 NC, AB24 NC, AB25 NC, AB26 NC, AC1 NC, AC2 NC, AC3 NC, AC5 NC, AC25 NC, AC26 NC, AD1 NC, AD2 NC, AD4 NC, AD5 NC, AD6 NC, AD20 NC, AD23 NC, AD25 NC, AD26 NC, AE3 NC, AE4 NC, AE5 NC, AE6 NC, AE7 NC, AE20 NC, AE21 NC, AE22 NC, AF3 NC, AF4 NC, AF5 NC, AF6 NC, AF7 NC, AF8 NC, AF18 NC, AF19 NC, AF20 NC, AF21 NC, AF22 NC, AF24 NC, B3 NC, B4 NC, B5 NC, B6 NC, B7 NC, B20 NC, B21 NC, B22 NC, B23 NC, B24 NC, C2 NC, C4 NC, C5 NC, C6 NC, C21 NC, C22 NC, C23 NC, C25 NC, C26 NC, D1 NC, D2 NC, D3 NC, D5 NC, D6 NC, D22 NC, D24 NC, D25 NC, D26 NC, E1 NC, E2 NC, E3 NC, E4 NC, E23 NC, E24 NC, E25 NC, E26 NC, F1 NC, F2 NC, F3 NC, F4 NC, F23 NC, F24 NC, F25 NC, F26 NC, G3 NC, G4 NC, G23 NC, G24 NC, G25 NC, Y4 NC, Y23 NC, Y24 NC, Y25 NC, Y26 NC

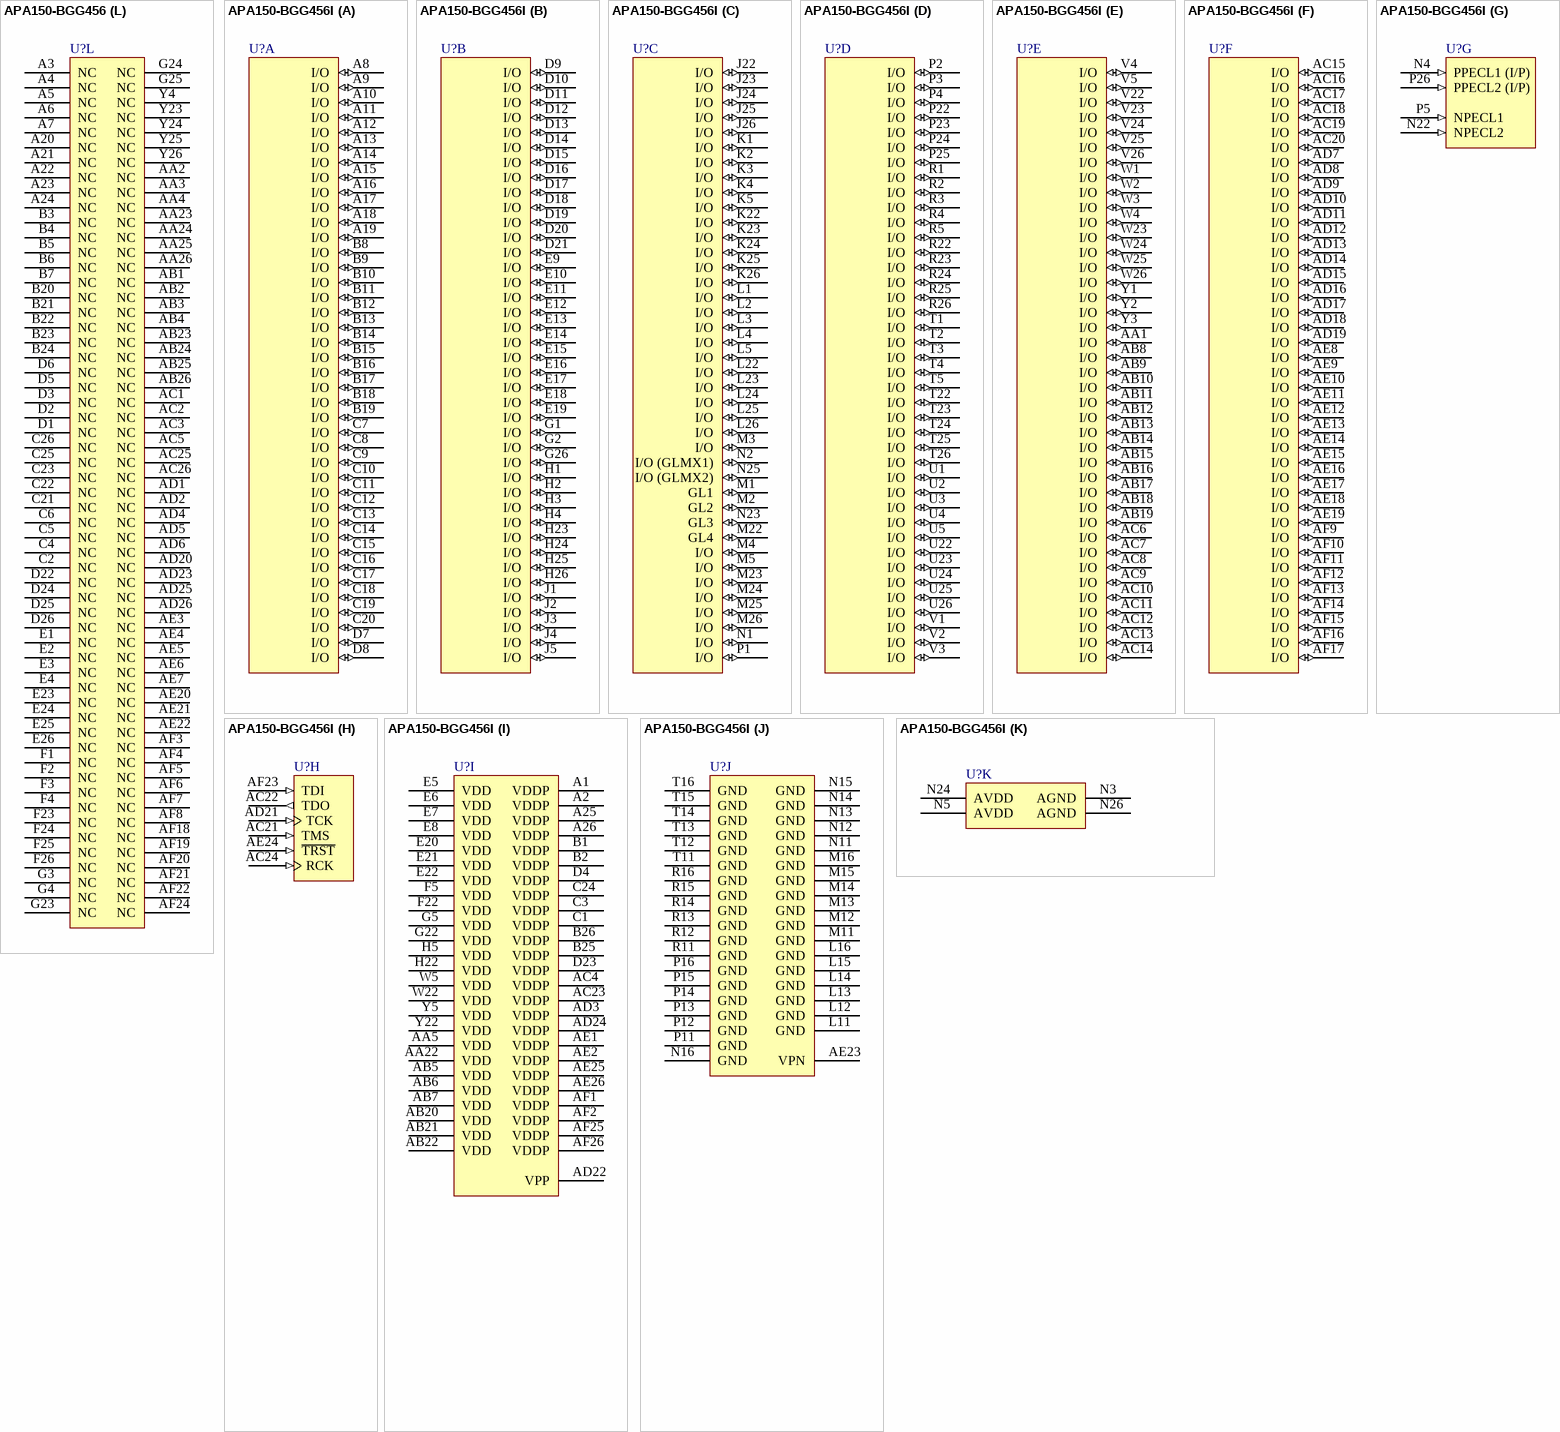
[diagram p15: symbols APA150-BGG456 to APA150-BGG456I]